# Altium footprint library PIMX8M6AVUDD1A_BGA1313_IMX8_BGA.PcbLib: 1 footprints
Each footprint in its own frame and in the unit in brackets; x right, y up, seen from the top. Pads: shape width x height; smd on the part's side, far side on the other; paste and mask are expansions set on the pad; w line width, h text height; cw(c..) or ccw(c..) is an arc to the next point about the centre after c.
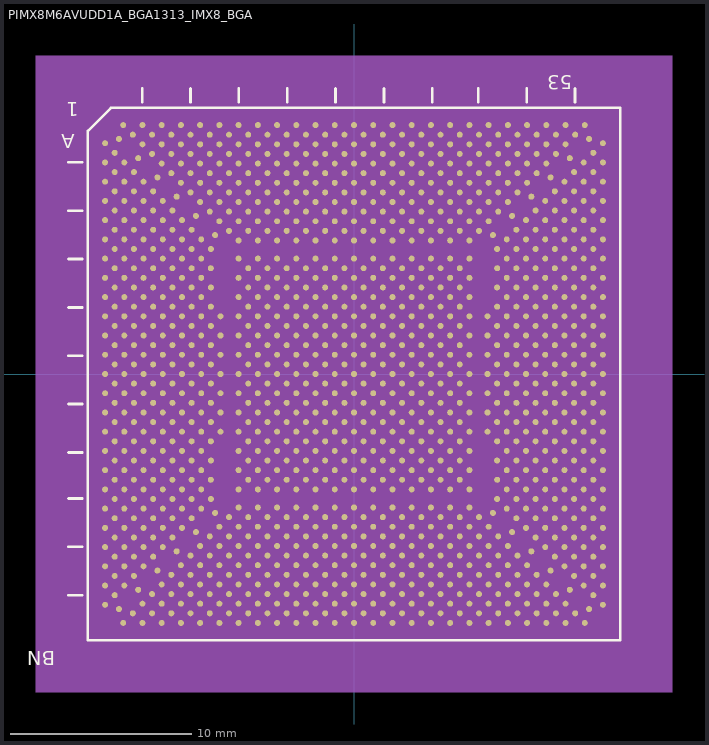
[diagram p0: the footprint, top view; thin cyan lines are the x and y axes]

## PIMX8M6AVUDD1A_BGA1313_IMX8_BGA [mil] "i.MX 8QuadMax Application Processor"
pads (1313):
  round 13 smd: A3(-501.1,540.47) A5(-459.34,540.47) A7(-417.58,540.47) A9(-375.82,540.47) A11(-334.07,540.47) A13(-292.31,540.47) A15(-250.55,540.47) A17(-208.79,540.47) A19(-167.03,540.47) A21(-125.28,540.47) A23(-83.52,540.47) A25(-41.76,540.47) A27(0,540.47) A29(41.76,540.47) A31(83.52,540.47) A33(125.28,540.47) A35(167.03,540.47) A37(208.79,540.47) A39(250.55,540.47) A41(292.31,540.47) A43(334.07,540.47) A45(375.82,540.47) A47(417.58,540.47) A49(459.34,540.47) A51(501.1,540.47) AA1(-540.47,125.28) AA3(-498.71,125.28) AA5(-456.95,125.28) AA7(-415.19,125.28) AA9(-373.44,125.28) AA11(-331.68,125.28) AA13(-289.92,125.28) AA15(-250.55,125.28) AA17(-208.79,125.28) AA19(-167.03,125.28) AA21(-125.28,125.28) AA23(-83.52,125.28) AA25(-41.76,125.28) AA27(0,125.28) AA29(41.76,125.28) AA31(83.52,125.28) AA33(125.28,125.28) AA35(167.03,125.28) AA37(208.79,125.28) AA39(250.55,125.28) AA41(289.92,125.28) AA43(331.68,125.28) AA45(373.44,125.28) AA47(415.19,125.28) AA49(456.95,125.28) AA51(498.71,125.28) AA53(540.47,125.28) AB2(-519.59,104.39) AB4(-477.83,104.39) AB6(-436.07,104.39) AB8(-394.31,104.39) AB10(-352.56,104.39) AB12(-310.8,104.39) AB16(-229.67,104.39) AB18(-187.91,104.39) AB20(-146.15,104.39) AB22(-104.39,104.39) AB24(-62.64,104.39) AB26(-20.88,104.39) AB28(20.88,104.39) AB30(62.64,104.39) AB32(104.39,104.39) AB34(146.15,104.39) AB36(187.91,104.39) AB38(229.67,104.39) AB42(310.8,104.39) AB44(352.56,104.39) AB46(394.31,104.39) AB48(436.07,104.39) AB50(477.83,104.39) AB52(519.59,104.39) AC1(-540.47,83.52) AC3(-498.71,83.52) AC5(-456.95,83.52) AC7(-415.19,83.52) AC9(-373.44,83.52) AC11(-331.68,83.52) AC13(-289.92,83.52) AC15(-250.55,83.52) AC17(-208.79,83.52) AC19(-167.03,83.52) AC21(-125.28,83.52) AC23(-83.52,83.52) AC25(-41.76,83.52) AC27(0,83.52) AC29(41.76,83.52) AC31(83.52,83.52) AC33(125.28,83.52) AC35(167.03,83.52) AC37(208.79,83.52) AC39(250.55,83.52) AC41(289.92,83.52) AC43(331.68,83.52) AC45(373.44,83.52) AC47(415.19,83.52) AC49(456.95,83.52) AC51(498.71,83.52) AC53(540.47,83.52) AD2(-519.59,62.64) AD4(-477.83,62.64) AD6(-436.07,62.64) AD8(-394.31,62.64) AD10(-352.56,62.64) AD12(-310.8,62.64) AD16(-229.67,62.64) AD18(-187.91,62.64) AD20(-146.15,62.64) AD22(-104.39,62.64) AD24(-62.64,62.64) AD26(-20.88,62.64) AD28(20.88,62.64) AD30(62.64,62.64) AD32(104.39,62.64) AD34(146.15,62.64) AD36(187.91,62.64) AD38(229.67,62.64) AD42(310.8,62.64) AD44(352.56,62.64) AD46(394.31,62.64) AD48(436.07,62.64) AD50(477.83,62.64) AD52(519.59,62.64) AE1(-540.47,41.76) AE3(-498.71,41.76) AE5(-456.95,41.76) AE7(-415.19,41.76) AE9(-373.44,41.76) AE11(-331.68,41.76) AE13(-289.92,41.76) AE15(-250.55,41.76) AE17(-208.79,41.76) AE19(-167.03,41.76) AE21(-125.28,41.76) AE23(-83.52,41.76) AE25(-41.76,41.76) AE27(0,41.76) AE29(41.76,41.76) AE31(83.52,41.76) AE33(125.28,41.76) AE35(167.03,41.76) AE37(208.79,41.76) AE39(250.55,41.76) AE41(289.92,41.76) AE43(331.68,41.76) AE45(373.44,41.76) AE47(415.19,41.76) AE49(456.95,41.76) AE51(498.71,41.76) AE53(540.47,41.76) AF2(-519.59,20.88) AF4(-477.83,20.88) AF6(-436.07,20.88) AF8(-394.31,20.88) AF10(-352.56,20.88) AF12(-310.8,20.88) AF16(-229.67,20.88) AF18(-187.91,20.88) AF20(-146.15,20.88) AF22(-104.39,20.88) AF24(-62.64,20.88) AF26(-20.88,20.88) AF28(20.88,20.88) AF30(62.64,20.88) AF32(104.39,20.88) AF34(146.15,20.88) AF36(187.91,20.88) AF38(229.67,20.88) AF42(310.8,20.88) AF44(352.56,20.88) AF46(394.31,20.88) AF48(436.07,20.88) AF50(477.83,20.88) AF52(519.59,20.88) AG1(-540.47,0) AG3(-498.71,0) AG5(-456.95,0) AG7(-415.19,0) AG9(-373.44,0) AG11(-331.68,0) AG13(-289.92,0) AG15(-250.55,0) AG17(-208.79,0) AG19(-167.03,0) AG21(-125.28,0) AG23(-83.52,0) AG25(-41.76,0) AG27(0,0) AG29(41.76,0) AG31(83.52,0) AG33(125.28,0) AG35(167.03,0) AG37(208.79,0) AG39(250.55,0) AG41(289.92,0) AG43(331.68,0) AG45(373.44,0) AG47(415.19,0) AG49(456.95,0) AG51(498.71,0) AG53(540.47,0) AH2(-519.59,-20.88) AH4(-477.83,-20.88) AH6(-436.07,-20.88) AH8(-394.31,-20.88) AH10(-352.56,-20.88) AH12(-310.8,-20.88) AH16(-229.67,-20.88) AH18(-187.91,-20.88) AH20(-146.15,-20.88) AH22(-104.39,-20.88) AH24(-62.64,-20.88) AH26(-20.88,-20.88) AH28(20.88,-20.88) AH30(62.64,-20.88) AH32(104.39,-20.88) AH34(146.15,-20.88) AH36(187.91,-20.88) AH38(229.67,-20.88) AH42(310.8,-20.88) AH44(352.56,-20.88) AH46(394.31,-20.88) AH48(436.07,-20.88) AH50(477.83,-20.88) AH52(519.59,-20.88) AJ1(-540.47,-41.76) AJ3(-498.71,-41.76) AJ5(-456.95,-41.76) AJ7(-415.19,-41.76) AJ9(-373.44,-41.76) AJ11(-331.68,-41.76) AJ13(-289.92,-41.76) AJ15(-250.55,-41.76) AJ17(-208.79,-41.76) AJ19(-167.03,-41.76) AJ21(-125.28,-41.76) AJ23(-83.52,-41.76) AJ25(-41.76,-41.76) AJ27(0,-41.76) AJ29(41.76,-41.76) AJ31(83.52,-41.76) AJ33(125.28,-41.76) AJ35(167.03,-41.76) AJ37(208.79,-41.76) AJ39(250.55,-41.76) AJ41(289.92,-41.76) AJ43(331.68,-41.76) AJ45(373.44,-41.76) AJ47(415.19,-41.76) AJ49(456.95,-41.76) AJ51(498.71,-41.76) AJ53(540.47,-41.76) AK2(-519.59,-62.64) AK4(-477.83,-62.64) AK6(-436.07,-62.64) AK8(-394.31,-62.64) AK10(-352.56,-62.64) AK12(-310.8,-62.64) AK16(-229.67,-62.64) AK18(-187.91,-62.64) AK20(-146.15,-62.64) AK22(-104.39,-62.64) AK24(-62.64,-62.64) AK26(-20.88,-62.64) AK28(20.88,-62.64) AK30(62.64,-62.64) AK32(104.39,-62.64) AK34(146.15,-62.64) AK36(187.91,-62.64) AK38(229.67,-62.64) AK42(310.8,-62.64) AK44(352.56,-62.64) AK46(394.31,-62.64) AK48(436.07,-62.64) AK50(477.83,-62.64) AK52(519.59,-62.64) AL1(-540.47,-83.52) AL3(-498.71,-83.52) AL5(-456.95,-83.52) AL7(-415.19,-83.52) AL9(-373.44,-83.52) AL11(-331.68,-83.52) AL13(-289.92,-83.52) AL15(-250.55,-83.52) AL17(-208.79,-83.52) AL19(-167.03,-83.52) AL21(-125.28,-83.52) AL23(-83.52,-83.52) AL25(-41.76,-83.52) AL27(0,-83.52) AL29(41.76,-83.52) AL31(83.52,-83.52) AL33(125.28,-83.52) AL35(167.03,-83.52) AL37(208.79,-83.52) AL39(250.55,-83.52) AL41(289.92,-83.52) AL43(331.68,-83.52) AL45(373.44,-83.52) AL47(415.19,-83.52) AL49(456.95,-83.52) AL51(498.71,-83.52) AL53(540.47,-83.52) AM2(-519.59,-104.39) AM4(-477.83,-104.39) AM6(-436.07,-104.39) AM8(-394.31,-104.39) AM10(-352.56,-104.39) AM12(-310.8,-104.39) AM16(-229.67,-104.39) AM18(-187.91,-104.39) AM20(-146.15,-104.39) AM22(-104.39,-104.39) AM24(-62.64,-104.39) AM26(-20.88,-104.39) AM28(20.88,-104.39) AM30(62.64,-104.39) AM32(104.39,-104.39) AM34(146.15,-104.39) AM36(187.91,-104.39) AM38(229.67,-104.39) AM42(310.8,-104.39) AM44(352.56,-104.39) AM46(394.31,-104.39) AM48(436.07,-104.39) AM50(477.83,-104.39) AM52(519.59,-104.39) AN1(-540.47,-125.28) AN3(-498.71,-125.28) AN5(-456.95,-125.28) AN7(-415.19,-125.28) AN9(-373.44,-125.28) AN11(-331.68,-125.28) AN13(-289.92,-125.28) AN15(-250.55,-125.28) AN17(-208.79,-125.28) AN19(-167.03,-125.28) AN21(-125.28,-125.28) AN23(-83.52,-125.28) AN25(-41.76,-125.28) AN27(0,-125.28) AN29(41.76,-125.28) AN31(83.52,-125.28) AN33(125.28,-125.28) AN35(167.03,-125.28) AN37(208.79,-125.28) AN39(250.55,-125.28) AN41(289.92,-125.28) AN43(331.68,-125.28) AN45(373.44,-125.28) AN47(415.19,-125.28) AN49(456.95,-125.28) AN51(498.71,-125.28) AN53(540.47,-125.28) AP2(-519.59,-146.15) AP4(-477.83,-146.15) AP6(-436.07,-146.15) AP8(-394.31,-146.15) AP10(-352.56,-146.15) AP12(-310.8,-146.15) AP16(-229.67,-146.15) AP18(-187.91,-146.15) AP20(-146.15,-146.15) AP22(-104.39,-146.15) AP24(-62.64,-146.15) AP26(-20.88,-146.15) AP28(20.88,-146.15) AP30(62.64,-146.15) AP32(104.39,-146.15) AP34(146.15,-146.15) AP36(187.91,-146.15) AP38(229.67,-146.15) AP42(310.8,-146.15) AP44(352.56,-146.15) AP46(394.31,-146.15) AP48(436.07,-146.15) AP50(477.83,-146.15) AP52(519.59,-146.15) AR1(-540.47,-167.03) AR3(-498.71,-167.03) AR5(-456.95,-167.03) AR7(-415.19,-167.03) AR9(-373.44,-167.03) AR11(-331.68,-167.03) AR15(-250.55,-167.03) AR17(-208.79,-167.03) AR19(-167.03,-167.03) AR21(-125.28,-167.03) AR23(-83.52,-167.03) AR25(-41.76,-167.03) AR27(0,-167.03) AR29(41.76,-167.03) AR31(83.52,-167.03) AR33(125.28,-167.03) AR35(167.03,-167.03) AR37(208.79,-167.03) AR39(250.55,-167.03) AR43(331.68,-167.03) AR45(373.44,-167.03) AR47(415.19,-167.03) AR49(456.95,-167.03) AR51(498.71,-167.03) AR53(540.47,-167.03) AT2(-519.59,-187.91) AT4(-477.83,-187.91) AT6(-436.07,-187.91) AT8(-394.31,-187.91) AT10(-352.56,-187.91) AT12(-310.8,-187.91) AT16(-229.67,-187.91) AT18(-187.91,-187.91) AT20(-146.15,-187.91) AT22(-104.39,-187.91) AT24(-62.64,-187.91) AT26(-20.88,-187.91) AT28(20.88,-187.91) AT30(62.64,-187.91) AT32(104.39,-187.91) AT34(146.15,-187.91) AT36(187.91,-187.91) AT38(229.67,-187.91) AT42(310.8,-187.91) AT44(352.56,-187.91) AT46(394.31,-187.91) AT48(436.07,-187.91) AT50(477.83,-187.91) AT52(519.59,-187.91) AU1(-540.47,-208.79) AU3(-498.71,-208.79) AU5(-456.95,-208.79) AU7(-415.19,-208.79) AU9(-373.44,-208.79) AU11(-331.68,-208.79) AU15(-250.55,-208.79) AU17(-208.79,-208.79) AU19(-167.03,-208.79) AU21(-125.28,-208.79) AU23(-83.52,-208.79) AU25(-41.76,-208.79) AU27(0,-208.79) AU29(41.76,-208.79) AU31(83.52,-208.79) AU33(125.28,-208.79) AU35(167.03,-208.79) AU37(208.79,-208.79) AU39(250.55,-208.79) AU43(331.68,-208.79) AU45(373.44,-208.79) AU47(415.19,-208.79) AU49(456.95,-208.79) AU51(498.71,-208.79) AU53(540.47,-208.79) AV2(-519.59,-229.67) AV4(-477.83,-229.67) AV6(-436.07,-229.67) AV8(-394.31,-229.67) AV10(-352.56,-229.67) AV12(-310.8,-229.67) AV16(-229.67,-229.67) AV18(-187.91,-229.67) AV20(-146.15,-229.67) AV22(-104.39,-229.67) AV24(-62.64,-229.67) AV26(-20.88,-229.67) AV28(20.88,-229.67) AV30(62.64,-229.67) AV32(104.39,-229.67) AV34(146.15,-229.67) AV36(187.91,-229.67) AV38(229.67,-229.67) AV42(310.8,-229.67) AV44(352.56,-229.67) AV46(394.31,-229.67) AV48(436.07,-229.67) AV50(477.83,-229.67) AV52(519.59,-229.67) AW1(-540.47,-250.55) AW3(-498.71,-250.55) AW5(-456.95,-250.55) AW7(-415.19,-250.55) AW9(-373.44,-250.55) AW11(-331.68,-250.55) AW15(-250.55,-250.55) AW17(-208.79,-250.55) AW19(-167.03,-250.55) AW21(-125.28,-250.55) AW23(-83.52,-250.55) AW25(-41.76,-250.55) AW27(0,-250.55) AW29(41.76,-250.55) AW31(83.52,-250.55) AW33(125.28,-250.55) AW35(167.03,-250.55) AW37(208.79,-250.55) AW39(250.55,-250.55) AW43(331.68,-250.55) AW45(373.44,-250.55) AW47(415.19,-250.55) AW49(456.95,-250.55) AW51(498.71,-250.55) AW53(540.47,-250.55) AY2(-519.59,-271.43) AY4(-477.83,-271.43) AY6(-436.07,-271.43) AY8(-394.31,-271.43) AY10(-352.56,-271.43) AY12(-310.8,-271.43) AY42(310.8,-271.43) AY44(352.56,-271.43) AY46(394.31,-271.43) AY48(436.07,-271.43) AY50(477.83,-271.43) AY52(519.59,-271.43) B4(-480.22,519.59) B6(-438.46,519.59) B8(-396.7,519.59) B10(-354.94,519.59) B12(-313.19,519.59) B14(-271.43,519.59) B16(-229.67,519.59) B18(-187.91,519.59) B20(-146.15,519.59) B22(-104.39,519.59) B24(-62.64,519.59) B26(-20.88,519.59) B28(20.88,519.59) B30(62.64,519.59) B32(104.39,519.59) B34(146.15,519.59) B36(187.91,519.59) B38(229.67,519.59) B40(271.43,519.59) B42(313.19,519.59) B44(354.94,519.59) B46(396.7,519.59) B48(438.46,519.59) B50(480.22,519.59) BA1(-540.47,-292.31) BA3(-498.71,-292.31) BA5(-456.95,-292.31) BA7(-415.19,-292.31) BA9(-373.44,-292.31) BA11(-331.68,-292.31) BA13(-301.55,-301.55) BA15(-250.55,-289.92) BA17(-208.79,-289.92) BA19(-167.03,-289.92) BA21(-125.28,-289.92) BA23(-83.52,-289.92) BA25(-41.76,-289.92) BA27(0,-289.92) BA29(41.76,-289.92) BA31(83.52,-289.92) BA33(125.28,-289.92) BA35(167.03,-289.92) BA37(208.79,-289.92) BA39(250.55,-289.92) BA41(301.55,-301.55) BA43(331.68,-292.31) BA45(373.44,-292.31) BA47(415.19,-292.31) BA49(456.95,-292.31) BA51(498.71,-292.31) BA53(540.47,-292.31) BB2(-519.59,-313.19) BB4(-477.83,-313.19) BB6(-436.07,-313.19) BB8(-394.31,-313.19) BB10(-352.56,-313.19) BB14(-271.43,-310.8) BB16(-229.67,-310.8) BB18(-187.91,-310.8) BB20(-146.15,-310.8) BB22(-104.39,-310.8) BB24(-62.64,-310.8) BB26(-20.88,-310.8) BB28(20.88,-310.8) BB30(62.64,-310.8) BB32(104.39,-310.8) BB34(146.15,-310.8) BB36(187.91,-310.8) BB38(229.67,-310.8) BB40(271.43,-310.8) BB44(352.56,-313.19) BB46(394.31,-313.19) BB48(436.07,-313.19) BB50(477.83,-313.19) BB52(519.59,-313.19) BC1(-540.47,-334.07) BC3(-498.71,-334.07) BC5(-456.95,-334.07) BC7(-415.19,-334.07) BC9(-373.44,-334.07) BC11(-343.31,-343.31) BC13(-292.31,-331.68) BC15(-250.55,-331.68) BC17(-208.79,-331.68) BC19(-167.03,-331.68) BC21(-125.28,-331.68) BC23(-83.52,-331.68) BC25(-41.76,-331.68) BC27(0,-331.68) BC29(41.76,-331.68) BC31(83.52,-331.68) BC33(125.28,-331.68) BC35(167.03,-331.68) BC37(208.79,-331.68) BC39(250.55,-331.68) BC41(292.31,-331.68) BC43(343.31,-343.31) BC45(373.44,-334.07) BC47(415.19,-334.07) BC49(456.95,-334.07) BC51(498.71,-334.07) BC53(540.47,-334.07) BD2(-519.59,-354.94) BD4(-477.83,-354.94) BD6(-436.07,-354.94) BD8(-394.31,-354.94) BD12(-313.19,-352.56) BD14(-271.43,-352.56) BD16(-229.67,-352.56) BD18(-187.91,-352.56) BD20(-146.15,-352.56) BD22(-104.39,-352.56) BD24(-62.64,-352.56) BD26(-20.88,-352.56) BD28(20.88,-352.56) BD30(62.64,-352.56) BD32(104.39,-352.56) BD34(146.15,-352.56) BD36(187.91,-352.56) BD38(229.67,-352.56) BD40(271.43,-352.56) BD42(313.19,-352.56) BD46(394.31,-354.94) BD48(436.07,-354.94) BD50(477.83,-354.94) BD52(519.59,-354.94) BE1(-540.47,-375.82) BE3(-498.71,-375.82) BE5(-456.95,-375.82) BE7(-415.19,-375.82) BE9(-385.07,-385.07) BE11(-334.07,-373.44) BE13(-292.31,-373.44) BE15(-250.55,-373.44) BE17(-208.79,-373.44) BE19(-167.03,-373.44) BE21(-125.28,-373.44) BE23(-83.52,-373.44) BE25(-41.76,-373.44) BE27(0,-373.44) BE29(41.76,-373.44) BE31(83.52,-373.44) BE33(125.28,-373.44) BE35(167.03,-373.44) BE37(208.79,-373.44) BE39(250.55,-373.44) BE41(292.31,-373.44) BE43(334.07,-373.44) BE45(385.07,-385.07) BE47(415.19,-375.82) BE49(456.95,-375.82) BE51(498.71,-375.82) BE53(540.47,-375.82) BF2(-519.59,-396.7) BF4(-477.83,-396.7) BF6(-436.07,-396.7) BF10(-354.94,-394.31) BF12(-313.19,-394.31) BF14(-271.43,-394.31) BF16(-229.67,-394.31) BF18(-187.91,-394.31) BF20(-146.15,-394.31) BF22(-104.39,-394.31) BF24(-62.64,-394.31) BF26(-20.88,-394.31) BF28(20.88,-394.31) BF30(62.64,-394.31) BF32(104.39,-394.31) BF34(146.15,-394.31) BF36(187.91,-394.31) BF38(229.67,-394.31) BF40(271.43,-394.31) BF42(313.19,-394.31) BF44(354.94,-394.31) BF48(436.07,-396.7) BF50(477.83,-396.7) BF52(519.59,-396.7) BG1(-540.47,-417.58) BG3(-498.71,-417.58) BG5(-456.95,-417.58) BG7(-426.83,-426.83) BG9(-375.82,-415.19) BG11(-334.07,-415.19) BG13(-292.31,-415.19) BG15(-250.55,-415.19) BG17(-208.79,-415.19) BG19(-167.03,-415.19) BG21(-125.28,-415.19) BG23(-83.52,-415.19) BG25(-41.76,-415.19) BG27(0,-415.19) BG29(41.76,-415.19) BG31(83.52,-415.19) BG33(125.28,-415.19) BG35(167.03,-415.19) BG37(208.79,-415.19) BG39(250.55,-415.19) BG41(292.31,-415.19) BG43(334.07,-415.19) BG45(375.82,-415.19) BG47(426.83,-426.83) BG49(456.95,-417.58) BG51(498.71,-417.58) BG53(540.47,-417.58) BH2(-519.59,-438.46) BH4(-477.83,-438.46) BH8(-396.7,-436.07) BH10(-354.94,-436.07) BH12(-313.19,-436.07) BH14(-271.43,-436.07) BH16(-229.67,-436.07) BH18(-187.91,-436.07) BH20(-146.15,-436.07) BH22(-104.39,-436.07) BH24(-62.64,-436.07) BH26(-20.88,-436.07) BH28(20.88,-436.07) BH30(62.64,-436.07) BH32(104.39,-436.07) BH34(146.15,-436.07) BH36(187.91,-436.07) BH38(229.67,-436.07) BH40(271.43,-436.07) BH42(313.19,-436.07) BH44(354.94,-436.07) BH46(396.7,-436.07) BH50(477.83,-438.46) BH52(519.59,-438.46) BJ1(-540.47,-459.34) BJ3(-498.71,-459.34) BJ5(-468.59,-468.59) BJ7(-417.58,-456.95) BJ9(-375.82,-456.95) BJ11(-334.07,-456.95) BJ13(-292.31,-456.95) BJ15(-250.55,-456.95) BJ17(-208.79,-456.95) BJ19(-167.03,-456.95) BJ21(-125.28,-456.95) BJ23(-83.52,-456.95) BJ25(-41.76,-456.95) BJ27(0,-456.95) BJ29(41.76,-456.95) BJ31(83.52,-456.95) BJ33(125.28,-456.95) BJ35(167.03,-456.95) BJ37(208.79,-456.95) BJ39(250.55,-456.95) BJ41(292.31,-456.95) BJ43(334.07,-456.95) BJ45(375.82,-456.95) BJ47(417.58,-456.95) BJ49(468.59,-468.59) BJ51(498.71,-459.34) BJ53(540.47,-459.34) BK2(-519.59,-480.22) BK6(-438.46,-477.83) BK8(-396.7,-477.83) BK10(-354.94,-477.83) BK12(-313.19,-477.83) BK14(-271.43,-477.83) BK16(-229.67,-477.83) BK18(-187.91,-477.83) BK20(-146.15,-477.83) BK22(-104.39,-477.83) BK24(-62.64,-477.83) BK26(-20.88,-477.83) BK28(20.88,-477.83) BK30(62.64,-477.83) BK32(104.39,-477.83) BK34(146.15,-477.83) BK36(187.91,-477.83) BK38(229.67,-477.83) BK40(271.43,-477.83) BK42(313.19,-477.83) BK44(354.94,-477.83) BK46(396.7,-477.83) BK48(438.46,-477.83) BK52(519.59,-480.22) BL1(-540.47,-501.1) BL3(-510.34,-510.34) BL5(-459.34,-498.71) BL7(-417.58,-498.71) BL9(-375.82,-498.71) BL11(-334.07,-498.71) BL13(-292.31,-498.71) BL15(-250.55,-498.71) BL17(-208.79,-498.71) BL19(-167.03,-498.71) BL21(-125.28,-498.71) BL23(-83.52,-498.71) BL25(-41.76,-498.71) BL27(0,-498.71) BL29(41.76,-498.71) BL31(83.52,-498.71) BL33(125.28,-498.71) BL35(167.03,-498.71) BL37(208.79,-498.71) BL39(250.55,-498.71) BL41(292.31,-498.71) BL43(334.07,-498.71) BL45(375.82,-498.71) BL47(417.58,-498.71) BL49(459.34,-498.71) BL51(510.34,-510.34) BL53(540.47,-501.1) BM4(-480.22,-519.59) BM6(-438.46,-519.59) BM8(-396.7,-519.59) BM10(-354.94,-519.59) BM12(-313.19,-519.59) BM14(-271.43,-519.59) BM16(-229.67,-519.59) BM18(-187.91,-519.59) BM20(-146.15,-519.59) BM22(-104.39,-519.59) BM24(-62.64,-519.59) BM26(-20.88,-519.59) BM28(20.88,-519.59) BM30(62.64,-519.59) BM32(104.39,-519.59) BM34(146.15,-519.59) BM36(187.91,-519.59) BM38(229.67,-519.59) BM40(271.43,-519.59) BM42(313.19,-519.59) BM44(354.94,-519.59) BM46(396.7,-519.59) BM48(438.46,-519.59) BM50(480.22,-519.59) BN3(-501.1,-540.47) BN5(-459.34,-540.47) BN7(-417.58,-540.47) BN9(-375.82,-540.47) BN11(-334.07,-540.47) BN13(-292.31,-540.47) BN15(-250.55,-540.47) BN17(-208.79,-540.47) BN19(-167.03,-540.47) BN21(-125.28,-540.47) BN23(-83.52,-540.47) BN25(-41.76,-540.47) BN27(0,-540.47) BN29(41.76,-540.47) BN31(83.52,-540.47) BN33(125.28,-540.47) BN35(167.03,-540.47) BN37(208.79,-540.47) BN39(250.55,-540.47) BN41(292.31,-540.47) BN43(334.07,-540.47) BN45(375.82,-540.47) BN47(417.58,-540.47) BN49(459.34,-540.47) BN51(501.1,-540.47) C1(-540.47,501.1) C3(-510.34,510.34) C5(-459.34,498.71) C7(-417.58,498.71) C9(-375.82,498.71) C11(-334.07,498.71) C13(-292.31,498.71) C15(-250.55,498.71) C17(-208.79,498.71) C19(-167.03,498.71) C21(-125.28,498.71) C23(-83.52,498.71) C25(-41.76,498.71) C27(0,498.71) C29(41.76,498.71) C31(83.52,498.71) C33(125.28,498.71) C35(167.03,498.71) C37(208.79,498.71) C39(250.55,498.71) C41(292.31,498.71) C43(334.07,498.71) C45(375.82,498.71) C47(417.58,498.71) C49(459.34,498.71) C51(510.34,510.34) C53(540.47,501.1) D2(-519.59,480.22) D6(-438.46,477.83) D8(-396.7,477.83) D10(-354.94,477.83) D12(-313.19,477.83) D14(-271.43,477.83) D16(-229.67,477.83) D18(-187.91,477.83) D20(-146.15,477.83) D22(-104.39,477.83) D24(-62.64,477.83) D26(-20.88,477.83) D28(20.88,477.83) D30(62.64,477.83) D32(104.39,477.83) D34(146.15,477.83) D36(187.91,477.83) D38(229.67,477.83) D40(271.43,477.83) D42(313.19,477.83) D44(354.94,477.83) D46(396.7,477.83) D48(438.46,477.83) D52(519.59,480.22) E1(-540.47,459.34) E3(-498.71,459.34) E5(-468.59,468.59) E7(-417.58,456.95) E9(-375.82,456.95) E11(-334.07,456.95) E13(-292.31,456.95) E15(-250.55,456.95) E17(-208.79,456.95) E19(-167.03,456.95) E21(-125.28,456.95) E23(-83.52,456.95) E25(-41.76,456.95) E27(0,456.95) E29(41.76,456.95) E31(83.52,456.95) E33(125.28,456.95) E35(167.03,456.95) E37(208.79,456.95) E39(250.55,456.95) E41(292.31,456.95) E43(334.07,456.95) E45(375.82,456.95) E47(417.58,456.95) E49(468.59,468.59) E51(498.71,459.34) E53(540.47,459.34) F2(-519.59,438.46) F4(-477.83,438.46) F8(-396.7,436.07) F10(-354.94,436.07) F12(-313.19,436.07) F14(-271.43,436.07) F16(-229.67,436.07) F18(-187.91,436.07) F20(-146.15,436.07) F22(-104.39,436.07) F24(-62.64,436.07) F26(-20.88,436.07) F28(20.88,436.07) F30(62.64,436.07) F32(104.39,436.07) F34(146.15,436.07) F36(187.91,436.07) F38(229.67,436.07) F40(271.43,436.07) F42(313.19,436.07) F44(354.94,436.07) F46(396.7,436.07) F50(477.83,438.46) F52(519.59,438.46) G1(-540.47,417.58) G3(-498.71,417.58) G5(-456.95,417.58) G7(-426.83,426.83) G9(-375.82,415.19) G11(-334.07,415.19) G13(-292.31,415.19) G15(-250.55,415.19) G17(-208.79,415.19) G19(-167.03,415.19) G21(-125.28,415.19) G23(-83.52,415.19) G25(-41.76,415.19) G27(0,415.19) G29(41.76,415.19) G31(83.52,415.19) G33(125.28,415.19) G35(167.03,415.19) G37(208.79,415.19) G39(250.55,415.19) G41(292.31,415.19) G43(334.07,415.19) G45(375.82,415.19) G47(426.83,426.83) G49(456.95,417.58) G51(498.71,417.58) G53(540.47,417.58) H2(-519.59,396.7) H4(-477.83,396.7) H6(-436.07,396.7) H10(-354.94,394.31) H12(-313.19,394.31) H14(-271.43,394.31) H16(-229.67,394.31) H18(-187.91,394.31) H20(-146.15,394.31) H22(-104.39,394.31) H24(-62.64,394.31) H26(-20.88,394.31) H28(20.88,394.31) H30(62.64,394.31) H32(104.39,394.31) H34(146.15,394.31) H36(187.91,394.31) H38(229.67,394.31) H40(271.43,394.31) H42(313.19,394.31) H44(354.94,394.31) H48(436.07,396.7) H50(477.83,396.7) H52(519.59,396.7) J1(-540.47,375.82) J3(-498.71,375.82) J5(-456.95,375.82) J7(-415.19,375.82) J9(-385.07,385.07) J11(-334.07,373.44) J13(-292.31,373.44) J15(-250.55,373.44) J17(-208.79,373.44) J19(-167.03,373.44) J21(-125.28,373.44) J23(-83.52,373.44) J25(-41.76,373.44) J27(0,373.44) J29(41.76,373.44) J31(83.52,373.44) J33(125.28,373.44) J35(167.03,373.44) J37(208.79,373.44) J39(250.55,373.44) J41(292.31,373.44) J43(334.07,373.44) J45(385.07,385.07) J47(415.19,375.82) J49(456.95,375.82) J51(498.71,375.82) J53(540.47,375.82) K2(-519.59,354.94) K4(-477.83,354.94) K6(-436.07,354.94) K8(-394.31,354.94) K12(-313.19,352.56) K14(-271.43,352.56) K16(-229.67,352.56) K18(-187.91,352.56) K20(-146.15,352.56) K22(-104.39,352.56) K24(-62.64,352.56) K26(-20.88,352.56) K28(20.88,352.56) K30(62.64,352.56) K32(104.39,352.56) K34(146.15,352.56) K36(187.91,352.56) K38(229.67,352.56) K40(271.43,352.56) K42(313.19,352.56) K46(394.31,354.94) K48(436.07,354.94) K50(477.83,354.94) K52(519.59,354.94) L1(-540.47,334.07) L3(-498.71,334.07) L5(-456.95,334.07) L7(-415.19,334.07) L9(-373.44,334.07) L11(-343.31,343.31) L13(-292.31,331.68) L15(-250.55,331.68) L17(-208.79,331.68) L19(-167.03,331.68) L21(-125.28,331.68) L23(-83.52,331.68) L25(-41.76,331.68) L27(0,331.68) L29(41.76,331.68) L31(83.52,331.68) L33(125.28,331.68) L35(167.03,331.68) L37(208.79,331.68) L39(250.55,331.68) L41(292.31,331.68) L43(343.31,343.31) L45(373.44,334.07) L47(415.19,334.07) L49(456.95,334.07) L51(498.71,334.07) L53(540.47,334.07) M2(-519.59,313.19) M4(-477.83,313.19) M6(-436.07,313.19) M8(-394.31,313.19) M10(-352.56,313.19) M14(-271.43,310.8) M16(-229.67,310.8) M18(-187.91,310.8) M20(-146.15,310.8) M22(-104.39,310.8) M24(-62.64,310.8) M26(-20.88,310.8) M28(20.88,310.8) M30(62.64,310.8) M32(104.39,310.8) M34(146.15,310.8) M36(187.91,310.8) M38(229.67,310.8) M40(271.43,310.8) M44(352.56,313.19) M46(394.31,313.19) M48(436.07,313.19) M50(477.83,313.19) M52(519.59,313.19) N1(-540.47,292.31) N3(-498.71,292.31) N5(-456.95,292.31) N7(-415.19,292.31) N9(-373.44,292.31) N11(-331.68,292.31) N13(-301.55,301.55) N15(-250.55,289.92) N17(-208.79,289.92) N19(-167.03,289.92) N21(-125.28,289.92) N23(-83.52,289.92) N25(-41.76,289.92) N27(0,289.92) N29(41.76,289.92) N31(83.52,289.92) N33(125.28,289.92) N35(167.03,289.92) N37(208.79,289.92) N39(250.55,289.92) N41(301.55,301.55) N43(331.68,292.31) N45(373.44,292.31) N47(415.19,292.31) N49(456.95,292.31) N51(498.71,292.31) N53(540.47,292.31) P2(-519.59,271.43) P4(-477.83,271.43) P6(-436.07,271.43) P8(-394.31,271.43) P10(-352.56,271.43) P12(-310.8,271.43) P42(310.8,271.43) P44(352.56,271.43) P46(394.31,271.43) P48(436.07,271.43) P50(477.83,271.43) P52(519.59,271.43) R1(-540.47,250.55) R3(-498.71,250.55) R5(-456.95,250.55) R7(-415.19,250.55) R9(-373.44,250.55) R11(-331.68,250.55) R15(-250.55,250.55) R17(-208.79,250.55) R19(-167.03,250.55) R21(-125.28,250.55) R23(-83.52,250.55) R25(-41.76,250.55) R27(0,250.55) R29(41.76,250.55) R31(83.52,250.55) R33(125.28,250.55) R35(167.03,250.55) R37(208.79,250.55) R39(250.55,250.55) R43(331.68,250.55) R45(373.44,250.55) R47(415.19,250.55) R49(456.95,250.55) R51(498.71,250.55) R53(540.47,250.55) T2(-519.59,229.67) T4(-477.83,229.67) T6(-436.07,229.67) T8(-394.31,229.67) T10(-352.56,229.67) T12(-310.8,229.67) T16(-229.67,229.67) T18(-187.91,229.67) T20(-146.15,229.67) T22(-104.39,229.67) T24(-62.64,229.67) T26(-20.88,229.67) T28(20.88,229.67) T30(62.64,229.67) T32(104.39,229.67) T34(146.15,229.67) T36(187.91,229.67) T38(229.67,229.67) T42(310.8,229.67) T44(352.56,229.67) T46(394.31,229.67) T48(436.07,229.67) T50(477.83,229.67) T52(519.59,229.67) U1(-540.47,208.79) U3(-498.71,208.79) U5(-456.95,208.79) U7(-415.19,208.79) U9(-373.44,208.79) U11(-331.68,208.79) U15(-250.55,208.79) U17(-208.79,208.79) U19(-167.03,208.79) U21(-125.28,208.79) U23(-83.52,208.79) U25(-41.76,208.79) U27(0,208.79) U29(41.76,208.79) U31(83.52,208.79) U33(125.28,208.79) U35(167.03,208.79) U37(208.79,208.79) U39(250.55,208.79) U43(331.68,208.79) U45(373.44,208.79) U47(415.19,208.79) U49(456.95,208.79) U51(498.71,208.79) U53(540.47,208.79) V2(-519.59,187.91) V4(-477.83,187.91) V6(-436.07,187.91) V8(-394.31,187.91) V10(-352.56,187.91) V12(-310.8,187.91) V16(-229.67,187.91) V18(-187.91,187.91) V20(-146.15,187.91) V22(-104.39,187.91) V24(-62.64,187.91) V26(-20.88,187.91) V28(20.88,187.91) V30(62.64,187.91) V32(104.39,187.91) V34(146.15,187.91) V36(187.91,187.91) V38(229.67,187.91) V42(310.8,187.91) V44(352.56,187.91) V46(394.31,187.91) V48(436.07,187.91) V50(477.83,187.91) V52(519.59,187.91) W1(-540.47,167.03) W3(-498.71,167.03) W5(-456.95,167.03) W7(-415.19,167.03) W9(-373.44,167.03) W11(-331.68,167.03) W15(-250.55,167.03) W17(-208.79,167.03) W19(-167.03,167.03) W21(-125.28,167.03) W23(-83.52,167.03) W25(-41.76,167.03) W27(0,167.03) W29(41.76,167.03) W31(83.52,167.03) W33(125.28,167.03) W35(167.03,167.03) W37(208.79,167.03) W39(250.55,167.03) W43(331.68,167.03) W45(373.44,167.03) W47(415.19,167.03) W49(456.95,167.03) W51(498.71,167.03) W53(540.47,167.03) Y2(-519.59,146.15) Y4(-477.83,146.15) Y6(-436.07,146.15) Y8(-394.31,146.15) Y10(-352.56,146.15) Y12(-310.8,146.15) Y16(-229.67,146.15) Y18(-187.91,146.15) Y20(-146.15,146.15) Y22(-104.39,146.15) Y24(-62.64,146.15) Y26(-20.88,146.15) Y28(20.88,146.15) Y30(62.64,146.15) Y32(104.39,146.15) Y34(146.15,146.15) Y36(187.91,146.15) Y38(229.67,146.15) Y42(310.8,146.15) Y44(352.56,146.15) Y46(394.31,146.15) Y48(436.07,146.15) Y50(477.83,146.15) Y52(519.59,146.15)
Top Overlay:
  lines w6: -619.77,-480.33 -590.24,-480.33 ; -619.77,-375.33 -590.24,-375.33 ; -619.77,-270.33 -590.24,-270.33 ; -619.77,-170.33 -590.24,-170.33 ; -619.77,-65.33 -590.24,-65.33 ; -619.77,39.67 -590.24,39.67 ; -619.77,144.67 -590.24,144.67 ; -619.77,249.67 -590.24,249.67 ; -619.77,354.67 -590.24,354.67 ; -619.77,459.67 -590.24,459.67 ; -460,590.23 -460,619.76 ; -355,590.23 -355,619.76 ; -250,590.23 -250,619.76 ; -145,590.23 -145,619.76 ; -40,590.23 -40,619.76 ; 65,590.23 65,619.76 ; 170,590.23 170,619.76 ; 270,590.23 270,619.76 ; 375,590.23 375,619.76 ; 480,590.23 480,619.76 ; -577.87,-577.87 577.87,-577.87 577.87,577.87 -527.87,577.87 -577.87,527.87 -577.87,-577.87
  text "53" at 474.24,648.5 h30.98
  text "1" at -597.95,590.38 h30.98
  text "A" at -606.08,521 h30.98
  text "BN" at -649.19,-602.12 h30.98
Mechanical 5:
  pour cut-out: -570.87,-570.87 570.87,-570.87 570.87,570.87 -570.87,570.87
Mechanical 7:
  region: -570.87,-570.87 570.87,-570.87 570.87,570.87 -570.87,570.87
Mechanical 9:
  lines w1: -10,0 10,0 ; 0,-10 0,10
Mechanical 11:
  circle w6: c-490.53,491.32 r51.28
  lines w6: -619.77,-480.33 -590.24,-480.33 ; -619.77,-375.33 -590.24,-375.33 ; -619.77,-270.33 -590.24,-270.33 ; -619.77,-170.33 -590.24,-170.33 ; -619.77,-65.33 -590.24,-65.33 ; -619.77,39.67 -590.24,39.67 ; -619.77,144.67 -590.24,144.67 ; -619.77,249.67 -590.24,249.67 ; -619.77,354.67 -590.24,354.67 ; -619.77,459.67 -590.24,459.67 ; -460,590.23 -460,619.76 ; -355,590.23 -355,619.76 ; -250,590.23 -250,619.76 ; -145,590.23 -145,619.76 ; -40,590.23 -40,619.76 ; 65,590.23 65,619.76 ; 170,590.23 170,619.76 ; 270,590.23 270,619.76 ; 375,590.23 375,619.76 ; 480,590.23 480,619.76 ; -570.87,-570.87 -570.87,520.87 -520.87,570.87 570.87,570.87 570.87,-570.87 -570.87,-570.87 ; -562.99,-543.31 ccw(c-543.31,-543.31) -543.31,-562.99 543.31,-562.99 ccw(c543.31,-543.31) 562.99,-543.31 562.99,543.31 ccw(c543.31,543.31) 543.31,562.99 -512.99,562.99 -562.99,512.99 -562.99,-543.31
  text ".Designator" at 30.17,16.64 h20
  text "53" at 577.05,609.76 h20
  text "1" at -553,587.5 h25
  text "BN" at -503.58,-510.55 h20
  text "A" at -614.25,527.96 h25
Mechanical 44:
  pour cut-out: -690.87,-690.87 690.87,-690.87 690.87,690.87 -690.87,690.87
Mechanical 46:
  text "AW21" at -109.28,-250.55 h10
  text "M18" at -175.91,310.8 h10
  text "N17" at -196.79,289.92 h10
  text "M16" at -217.67,310.8 h10
  text "N15" at -238.55,289.92 h10
  text "M14" at -259.43,310.8 h10
  text "T22" at -92.39,229.67 h10
  text "AU15" at -234.55,-208.79 h10
  text "AP16" at -213.67,-146.15 h10
  text "AR15" at -234.55,-167.03 h10
  text "AN15" at -234.55,-125.28 h10
  text "AM16" at -213.67,-104.39 h10
  text "AK16" at -213.67,-62.64 h10
  text "AV22" at -88.39,-229.67 h10
  text "AU27" at 16,-208.79 h10
  text "AV32" at 120.39,-229.67 h10
  text "AL39" at 266.55,-83.52 h10
  text "AM38" at 245.67,-104.39 h10
  text "N35" at 179.03,289.92 h10
  text "T18" at -175.91,229.67 h10
  text "N19" at -155.03,289.92 h10
  text "F16" at -217.67,436.07 h10
  text "BL13" at -276.31,-498.71 h10
  text "AB10" at -336.56,104.39 h10
  text "AC9" at -361.44,83.52 h10
  text "AC3" at -486.71,83.52 h10
  text "AE9" at -361.44,41.76 h10
  text "AC11" at -315.68,83.52 h10
  text "T8" at -386.31,229.67 h10
  text "W3" at -490.71,167.03 h10
  text "W9" at -365.44,167.03 h10
  text "Y10" at -340.56,146.15 h10
  text "W11" at -319.68,167.03 h10
  text "Y6" at -428.07,146.15 h10
  text "AB44" at 368.56,104.39 h10
  text "AC45" at 389.44,83.52 h10
  text "AC51" at 514.71,83.52 h10
  text "AE45" at 389.44,41.76 h10
  text "AC43" at 347.68,83.52 h10
  text "T46" at 406.31,229.67 h10
  text "W51" at 510.71,167.03 h10
  text "W45" at 385.44,167.03 h10
  text "Y44" at 364.56,146.15 h10
  text "W43" at 343.68,167.03 h10
  text "Y48" at 448.07,146.15 h10
  text "BM6" at -426.46,-519.59 h10
  text "AY42" at 326.8,-271.43 h10
  text "BH8" at -384.7,-436.07 h10
  text "BJ1" at -528.47,-459.34 h10
  text "G13" at -280.31,415.19 h10
  text "F22" at -92.39,436.07 h10
  text "F14" at -259.43,436.07 h10
  text "BM20" at -130.15,-519.59 h10
  text "BH10" at -338.94,-436.07 h10
  text "E17" at -196.79,456.95 h10
  text "BL5" at -447.34,-498.71 h10
  text "H14" at -259.43,394.31 h10
  text "BM8" at -384.7,-519.59 h10
  text "H16" at -217.67,394.31 h10
  text "BD2" at -507.59,-354.94 h10
  text "G17" at -196.79,415.19 h10
  text "E15" at -238.55,456.95 h10
  text "H18" at -175.91,394.31 h10
  text "A43" at 346.07,540.47 h10
  text "F18" at -175.91,436.07 h10
  text "H20" at -134.15,394.31 h10
  text "BD30" at 78.64,-352.56 h10
  text "B42" at 325.19,519.59 h10
  text "BN19" at -151.03,-540.47 h10
  text "G19" at -155.03,415.19 h10
  text "C45" at 387.82,498.71 h10
  text "BD36" at 203.91,-352.56 h10
  text "BB44" at 368.56,-313.19 h10
  text "BF16" at -213.67,-394.31 h10
  text "BH24" at -46.64,-436.07 h10
  text "BC45" at 389.44,-334.07 h10
  text "BG31" at 99.52,-415.19 h10
  text "A9" at -367.82,540.47 h10
  text "BK28" at 36.88,-477.83 h10
  text "BK52" at 535.59,-480.22 h10
  text "BM22" at -88.39,-519.59 h10
  text "BN23" at -67.52,-540.47 h10
  text "N39" at 262.55,289.92 h10
  text "M40" at 283.43,310.8 h10
  text "BM28" at 36.88,-519.59 h10
  text "F20" at -134.15,436.07 h10
  text "E45" at 387.82,456.95 h10
  text "BJ53" at 556.47,-459.34 h10
  text "BE23" at -67.52,-373.44 h10
  text "BN49" at 475.34,-540.47 h10
  text "BH30" at 78.64,-436.07 h10
  text "BE21" at -109.28,-373.44 h10
  text "G35" at 179.03,415.19 h10
  text "A47" at 429.58,540.47 h10
  text "BN15" at -234.55,-540.47 h10
  text "BH26" at -4.88,-436.07 h10
  text "A45" at 387.82,540.47 h10
  text "BH16" at -213.67,-436.07 h10
  text "BF22" at -88.39,-394.31 h10
  text "J27" at 12,373.44 h10
  text "BG33" at 141.28,-415.19 h10
  text "A7" at -409.58,540.47 h10
  text "BK26" at -4.88,-477.83 h10
  text "BN47" at 433.58,-540.47 h10
  text "BJ17" at -192.79,-456.95 h10
  text "BE19" at -151.03,-373.44 h10
  text "BE15" at -234.55,-373.44 h10
  text "D10" at -342.94,477.83 h10
  text "BF20" at -130.15,-394.31 h10
  text "D42" at 325.19,477.83 h10
  text "BJ19" at -151.03,-456.95 h10
  text "BF18" at -171.91,-394.31 h10
  text "BL49" at 475.34,-498.71 h10
  text "BH32" at 120.39,-436.07 h10
  text "BG27" at 16,-415.19 h10
  text "BG53" at 556.47,-417.58 h10
  text "BH18" at -171.91,-436.07 h10
  text "G29" at 53.76,415.19 h10
  text "BE31" at 99.52,-373.44 h10
  text "G37" at 220.79,415.19 h10
  text "BN17" at -192.79,-540.47 h10
  text "H30" at 74.64,394.31 h10
  text "E41" at 304.31,456.95 h10
  text "BM26" at -4.88,-519.59 h10
  text "E43" at 346.07,456.95 h10
  text "BL47" at 433.58,-498.71 h10
  text "G31" at 95.52,415.19 h10
  text "BE25" at -25.76,-373.44 h10
  text "BG29" at 57.76,-415.19 h10
  text "H32" at 116.39,394.31 h10
  text "BM24" at -46.64,-519.59 h10
  text "BH52" at 535.59,-438.46 h10
  text "BJ15" at -234.55,-456.95 h10
  text "J33" at 137.28,373.44 h10
  text "BN13" at -276.31,-540.47 h10
  text "BL29" at 57.76,-498.71 h10
  text "H34" at 158.15,394.31 h10
  text "BH14" at -255.43,-436.07 h10
  text "H28" at 32.88,394.31 h10
  text "B44" at 366.94,519.59 h10
  text "BN27" at 16,-540.47 h10
  text "H36" at 199.91,394.31 h10
  text "BH28" at 36.88,-436.07 h10
  text "BK24" at -46.64,-477.83 h10
  text "BE1" at -528.47,-375.82 h10
  text "AF4" at -465.83,20.88 h10
  text "BJ21" at -109.28,-456.95 h10
  text "AW45" at 389.44,-250.55 h10
  text "Y4" at -469.83,146.15 h10
  text "BE29" at 57.76,-373.44 h10
  text "AR3" at -486.71,-167.03 h10
  text "BJ23" at -67.52,-456.95 h10
  text "AJ5" at -444.95,-41.76 h10
  text "BN29" at 57.76,-540.47 h10
  text "AF10" at -336.56,20.88 h10
  text "AW53" at 556.47,-250.55 h10
  text "BH20" at -130.15,-436.07 h10
  text "AC33" at 141.28,83.52 h10
  text "AB32" at 120.39,104.39 h10
  text "W33" at 137.28,167.03 h10
  text "AD34" at 162.15,62.64 h10
  text "Y34" at 158.15,146.15 h10
  text "AE35" at 183.03,41.76 h10
  text "AB36" at 203.91,104.39 h10
  text "AA35" at 183.03,125.28 h10
  text "U35" at 179.03,208.79 h10
  text "V36" at 199.91,187.91 h10
  text "G3" at -490.71,417.58 h10
  text "A41" at 304.31,540.47 h10
  text "BF24" at -46.64,-394.31 h10
  text "AU21" at -109.28,-208.79 h10
  text "U7" at -407.19,208.79 h10
  text "BG35" at 183.03,-415.19 h10
  text "M24" at -50.64,310.8 h10
  text "N25" at -29.76,289.92 h10
  text "M26" at -8.88,310.8 h10
  text "N29" at 53.76,289.92 h10
  text "N5" at -448.95,292.31 h10
  text "BG25" at -25.76,-415.19 h10
  text "AT38" at 245.67,-187.91 h10
  text "U5" at -448.95,208.79 h10
  text "BJ13" at -276.31,-456.95 h10
  text "AE5" at -444.95,41.76 h10
  text "BL27" at 16,-498.71 h10
  text "AW15" at -234.55,-250.55 h10
  text "AV16" at -213.67,-229.67 h10
  text "AC7" at -403.19,83.52 h10
  text "AV20" at -130.15,-229.67 h10
  text "N33" at 137.28,289.92 h10
  text "M34" at 158.15,310.8 h10
  text "P4" at -469.83,271.43 h10
  text "BL25" at -25.76,-498.71 h10
  text "AE43" at 347.68,41.76 h10
  text "L7" at -407.19,334.07 h10
  text "M30" at 74.64,310.8 h10
  text "N31" at 95.52,289.92 h10
  text "M32" at 116.39,310.8 h10
  text "AE7" at -403.19,41.76 h10
  text "BH12" at -297.19,-436.07 h10
  text "AK42" at 326.8,-62.64 h10
  text "D44" at 366.94,477.83 h10
  text "BD28" at 36.88,-352.56 h10
  text "T38" at 241.67,229.67 h10
  text "U1" at -532.47,208.79 h10
  text "BL23" at -67.52,-498.71 h10
  text "AR21" at -109.28,-167.03 h10
  text "AT22" at -88.39,-187.91 h10
  text "AM22" at -88.39,-104.39 h10
  text "AP24" at -46.64,-146.15 h10
  text "AN23" at -67.52,-125.28 h10
  text "AR25" at -25.76,-167.03 h10
  text "AM26" at -4.88,-104.39 h10
  text "AJ11" at -315.68,-41.76 h10
  text "B16" at -217.67,519.59 h10
  text "BE27" at 16,-373.44 h10
  text "AH6" at -424.07,-20.88 h10
  text "BE17" at -192.79,-373.44 h10
  text "AU19" at -151.03,-208.79 h10
  text "N9" at -365.44,292.31 h10
  text "C17" at -196.79,498.71 h10
  text "BH34" at 162.15,-436.07 h10
  text "Y2" at -511.59,146.15 h10
  text "BN25" at -25.76,-540.47 h10
  text "AE19" at -151.03,41.76 h10
  text "AD18" at -171.91,62.64 h10
  text "AA19" at -151.03,125.28 h10
  text "Y18" at -175.91,146.15 h10
  text "AC21" at -109.28,83.52 h10
  text "AB20" at -130.15,104.39 h10
  text "W21" at -113.28,167.03 h10
  text "V20" at -134.15,187.91 h10
  text "AD22" at -88.39,62.64 h10
  text "Y22" at -92.39,146.15 h10
  text "U3" at -490.71,208.79 h10
  text "BK38" at 245.67,-477.83 h10
  text "AE11" at -315.68,41.76 h10
  text "AH4" at -465.83,-20.88 h10
  text "BH38" at 245.67,-436.07 h10
  text "AN27" at 16,-125.28 h10
  text "AP28" at 36.88,-146.15 h10
  text "AR29" at 57.76,-167.03 h10
  text "AL29" at 57.76,-83.52 h10
  text "AM30" at 78.64,-104.39 h10
  text "AN31" at 99.52,-125.28 h10
  text "AP32" at 120.39,-146.15 h10
  text "AR33" at 141.28,-167.03 h10
  text "AL33" at 141.28,-83.52 h10
  text "AT34" at 162.15,-187.91 h10
  text "AM34" at 162.15,-104.39 h10
  text "AN35" at 183.03,-125.28 h10
  text "T4" at -469.83,229.67 h10
  text "BN35" at 183.03,-540.47 h10
  text "M38" at 241.67,310.8 h10
  text "AE1" at -528.47,41.76 h10
  text "BE39" at 266.55,-373.44 h10
  text "AG21" at -109.28,0 h10
  text "AR17" at -192.79,-167.03 h10
  text "AL17" at -192.79,-83.52 h10
  text "AT18" at -171.91,-187.91 h10
  text "AN19" at -151.03,-125.28 h10
  text "AM18" at -171.91,-104.39 h10
  text "AH18" at -171.91,-20.88 h10
  text "AJ19" at -151.03,-41.76 h10
  text "U19" at -155.03,208.79 h10
  text "AP20" at -130.15,-146.15 h10
  text "AL21" at -109.28,-83.52 h10
  text "AF20" at -130.15,20.88 h10
  text "AE23" at -67.52,41.76 h10
  text "AF24" at -46.64,20.88 h10
  text "AB24" at -46.64,104.39 h10
  text "AA23" at -67.52,125.28 h10
  text "U23" at -71.52,208.79 h10
  text "V24" at -50.64,187.91 h10
  text "AW25" at -25.76,-250.55 h10
  text "AL25" at -25.76,-83.52 h10
  text "AC25" at -25.76,83.52 h10
  text "W25" at -29.76,167.03 h10
  text "AW27" at 16,-250.55 h10
  text "AV26" at -4.88,-229.67 h10
  text "AT26" at -4.88,-187.91 h10
  text "AE27" at 16,41.76 h10
  text "AD26" at -4.88,62.64 h10
  text "AA27" at 16,125.28 h10
  text "Y26" at -8.88,146.15 h10
  text "AV28" at 36.88,-229.67 h10
  text "AF28" at 36.88,20.88 h10
  text "AB28" at 36.88,104.39 h10
  text "AW29" at 57.76,-250.55 h10
  text "AU29" at 57.76,-208.79 h10
  text "AT30" at 78.64,-187.91 h10
  text "AC29" at 57.76,83.52 h10
  text "AD30" at 78.64,62.64 h10
  text "Y30" at 74.64,146.15 h10
  text "W29" at 53.76,167.03 h10
  text "AJ31" at 99.52,-41.76 h10
  text "AE31" at 99.52,41.76 h10
  text "AA31" at 99.52,125.28 h10
  text "AK32" at 120.39,-62.64 h10
  text "AG33" at 141.28,0 h10
  text "AF32" at 120.39,20.88 h10
  text "V32" at 116.39,187.91 h10
  text "AH34" at 162.15,-20.88 h10
  text "T34" at 158.15,229.67 h10
  text "AW35" at 183.03,-250.55 h10
  text "AU35" at 183.03,-208.79 h10
  text "AV36" at 203.91,-229.67 h10
  text "AP36" at 203.91,-146.15 h10
  text "AK36" at 203.91,-62.64 h10
  text "AF36" at 203.91,20.88 h10
  text "AR37" at 224.79,-167.03 h10
  text "AL37" at 224.79,-83.52 h10
  text "M20" at -134.15,310.8 h10
  text "BM38" at 245.67,-519.59 h10
  text "Y8" at -386.31,146.15 h10
  text "BK42" at 329.19,-477.83 h10
  text "AW39" at 266.55,-250.55 h10
  text "H4" at -469.83,396.7 h10
  text "N23" at -71.52,289.92 h10
  text "BM40" at 287.43,-519.59 h10
  text "AG17" at -192.79,0 h10
  text "AC17" at -192.79,83.52 h10
  text "W17" at -196.79,167.03 h10
  text "AH22" at -88.39,-20.88 h10
  text "AK24" at -46.64,-62.64 h10
  text "AJ23" at -67.52,-41.76 h10
  text "AG25" at -25.76,0 h10
  text "AH26" at -4.88,-20.88 h10
  text "AJ27" at 16,-41.76 h10
  text "AK28" at 36.88,-62.64 h10
  text "AH30" at 78.64,-20.88 h10
  text "AG29" at 57.76,0 h10
  text "AG37" at 224.79,0 h10
  text "AC37" at 224.79,83.52 h10
  text "W37" at 220.79,167.03 h10
  text "AL5" at -444.95,-83.52 h10
  text "BN43" at 350.07,-540.47 h10
  text "K4" at -469.83,354.94 h10
  text "AL11" at -315.68,-83.52 h10
  text "AL15" at -234.55,-83.52 h10
  text "AW17" at -192.79,-250.55 h10
  text "AV18" at -171.91,-229.67 h10
  text "N21" at -113.28,289.92 h10
  text "M22" at -92.39,310.8 h10
  text "AU23" at -67.52,-208.79 h10
  text "AV24" at -46.64,-229.67 h10
  text "U27" at 12,208.79 h10
  text "T26" at -8.88,229.67 h10
  text "N27" at 12,289.92 h10
  text "V28" at 32.88,187.91 h10
  text "AV30" at 78.64,-229.67 h10
  text "U29" at 53.76,208.79 h10
  text "T30" at 74.64,229.67 h10
  text "AW31" at 99.52,-250.55 h10
  text "U31" at 95.52,208.79 h10
  text "AW33" at 141.28,-250.55 h10
  text "AV34" at 162.15,-229.67 h10
  text "AP42" at 326.8,-146.15 h10
  text "M28" at 32.88,310.8 h10
  text "BL33" at 141.28,-498.71 h10
  text "BG51" at 514.71,-417.58 h10
  text "AH2" at -507.59,-20.88 h10
  text "AY46" at 410.31,-271.43 h10
  text "AH8" at -382.31,-20.88 h10
  text "F26" at -8.88,436.07 h10
  text "BG45" at 391.82,-415.19 h10
  text "P10" at -340.56,271.43 h10
  text "E23" at -71.52,456.95 h10
  text "BD40" at 287.43,-352.56 h10
  text "BB50" at 493.83,-313.19 h10
  text "AL7" at -403.19,-83.52 h10
  text "BL43" at 350.07,-498.71 h10
  text "BA47" at 431.19,-292.31 h10
  text "E25" at -29.76,456.95 h10
  text "BH46" at 412.7,-436.07 h10
  text "N7" at -407.19,292.31 h10
  text "BK40" at 287.43,-477.83 h10
  text "W1" at -532.47,167.03 h10
  text "BG43" at 350.07,-415.19 h10
  text "AJ9" at -361.44,-41.76 h10
  text "BN33" at 141.28,-540.47 h10
  text "AF6" at -424.07,20.88 h10
  text "BM44" at 370.94,-519.59 h10
  text "AB8" at -382.31,104.39 h10
  text "BH44" at 370.94,-436.07 h10
  text "BE47" at 431.19,-375.82 h10
  text "K6" at -428.07,354.94 h10
  text "BE35" at 183.03,-373.44 h10
  text "BE41" at 308.31,-373.44 h10
  text "AB4" at -465.83,104.39 h10
  text "BK44" at 370.94,-477.83 h10
  text "BE43" at 350.07,-373.44 h10
  text "BD46" at 410.31,-354.94 h10
  text "P2" at -511.59,271.43 h10
  text "BK32" at 120.39,-477.83 h10
  text "BD42" at 329.19,-352.56 h10
  text "T6" at -428.07,229.67 h10
  text "BG41" at 308.31,-415.19 h10
  text "G1" at -532.47,417.58 h10
  text "BE37" at 224.79,-373.44 h10
  text "BN45" at 391.82,-540.47 h10
  text "H6" at -428.07,396.7 h10
  text "K2" at -511.59,354.94 h10
  text "BH42" at 329.19,-436.07 h10
  text "C5" at -451.34,498.71 h10
  text "AJ1" at -528.47,-41.76 h10
  text "BM32" at 120.39,-519.59 h10
  text "AC1" at -528.47,83.52 h10
  text "BL45" at 391.82,-498.71 h10
  text "BG39" at 266.55,-415.19 h10
  text "AM2" at -507.59,-104.39 h10
  text "BL31" at 99.52,-498.71 h10
  text "L1" at -532.47,334.07 h10
  text "BN41" at 308.31,-540.47 h10
  text "AM6" at -424.07,-104.39 h10
  text "N1" at -532.47,292.31 h10
  text "BD32" at 120.39,-352.56 h10
  text "AJ3" at -486.71,-41.76 h10
  text "BK36" at 203.91,-477.83 h10
  text "L5" at -448.95,334.07 h10
  text "BH40" at 287.43,-436.07 h10
  text "AH10" at -336.56,-20.88 h10
  text "BN31" at 99.52,-540.47 h10
  text "AB6" at -424.07,104.39 h10
  text "BN39" at 266.55,-540.47 h10
  text "P8" at -386.31,271.43 h10
  text "BM36" at 203.91,-519.59 h10
  text "D30" at 74.64,477.83 h10
  text "AB2" at -507.59,104.39 h10
  text "BL41" at 308.31,-498.71 h10
  text "E31" at 95.52,456.95 h10
  text "N11" at -319.68,292.31 h10
  text "BK30" at 78.64,-477.83 h10
  text "N3" at -490.71,292.31 h10
  text "BK34" at 162.15,-477.83 h10
  text "H2" at -511.59,396.7 h10
  text "F30" at 74.64,436.07 h10
  text "BM30" at 78.64,-519.59 h10
  text "AL3" at -486.71,-83.52 h10
  text "BD38" at 245.67,-352.56 h10
  text "W7" at -407.19,167.03 h10
  text "BL37" at 224.79,-498.71 h10
  text "D32" at 116.39,477.83 h10
  text "AC5" at -444.95,83.52 h10
  text "BG37" at 224.79,-415.19 h10
  text "E33" at 137.28,456.95 h10
  text "F28" at 32.88,436.07 h10
  text "BD34" at 162.15,-352.56 h10
  text "F34" at 158.15,436.07 h10
  text "AL1" at -528.47,-83.52 h10
  text "BL39" at 266.55,-498.71 h10
  text "E35" at 179.03,456.95 h10
  text "AP4" at -465.83,-146.15 h10
  text "BN37" at 224.79,-540.47 h10
  text "AE3" at -486.71,41.76 h10
  text "A33" at 137.28,540.47 h10
  text "BM42" at 329.19,-519.59 h10
  text "U11" at -319.68,208.79 h10
  text "BH36" at 203.91,-436.07 h10
  text "P6" at -428.07,271.43 h10
  text "BM34" at 162.15,-519.59 h10
  text "AM4" at -465.83,-104.39 h10
  text "AR1" at -528.47,-167.03 h10
  text "AJ7" at -403.19,-41.76 h10
  text "AV4" at -465.83,-229.67 h10
  text "AP2" at -507.59,-146.15 h10
  text "W5" at -448.95,167.03 h10
  text "L3" at -490.71,334.07 h10
  text "AJ45" at 389.44,-41.76 h10
  text "H50" at 489.83,396.7 h10
  text "B38" at 241.67,519.59 h10
  text "AU5" at -444.95,-208.79 h10
  text "AF50" at 493.83,20.88 h10
  text "E27" at 12,456.95 h10
  text "AU1" at -528.47,-208.79 h10
  text "P52" at 531.59,271.43 h10
  text "T48" at 448.07,229.67 h10
  text "AV2" at -507.59,-229.67 h10
  text "N51" at 510.71,292.31 h10
  text "AJ53" at 556.47,-41.76 h10
  text "E29" at 53.76,456.95 h10
  text "AR51" at 514.71,-167.03 h10
  text "BA51" at 514.71,-292.31 h10
  text "L51" at 510.71,334.07 h10
  text "A39" at 262.55,540.47 h10
  text "AE49" at 472.95,41.76 h10
  text "H26" at -8.88,394.31 h10
  text "W49" at 468.95,167.03 h10
  text "A35" at 179.03,540.47 h10
  text "AU39" at 266.55,-208.79 h10
  text "BB4" at -465.83,-313.19 h10
  text "AU45" at 389.44,-208.79 h10
  text "K48" at 448.07,354.94 h10
  text "AY6" at -424.07,-271.43 h10
  text "AW49" at 472.95,-250.55 h10
  text "L47" at 427.19,334.07 h10
  text "C37" at 220.79,498.71 h10
  text "BA5" at -444.95,-292.31 h10
  text "AC53" at 556.47,83.52 h10
  text "BC1" at -528.47,-334.07 h10
  text "K50" at 489.83,354.94 h10
  text "W47" at 427.19,167.03 h10
  text "BF6" at -424.07,-396.7 h10
  text "P50" at 489.83,271.43 h10
  text "BM48" at 454.46,-519.59 h10
  text "BK48" at 454.46,-477.83 h10
  text "BM50" at 496.22,-519.59 h10
  text "BN51" at 517.1,-540.47 h10
  text "BF2" at -507.59,-396.7 h10
  text "AB52" at 535.59,104.39 h10
  text "BE5" at -444.95,-375.82 h10
  text "Y50" at 489.83,146.15 h10
  text "BG5" at -444.95,-417.58 h10
  text "AP52" at 535.59,-146.15 h10
  text "BD8" at -382.31,-354.94 h10
  text "AH52" at 535.59,-20.88 h10
  text "B34" at 158.15,519.59 h10
  text "BE11" at -318.07,-373.44 h10
  text "K52" at 531.59,354.94 h10
  text "BF12" at -297.19,-394.31 h10
  text "Y46" at 406.31,146.15 h10
  text "BD12" at -297.19,-352.56 h10
  text "AH44" at 368.56,-20.88 h10
  text "AY10" at -336.56,-271.43 h10
  text "P48" at 448.07,271.43 h10
  text "BF10" at -338.94,-394.31 h10
  text "AC49" at 472.95,83.52 h10
  text "BA11" at -315.68,-292.31 h10
  text "AU11" at -315.68,-208.79 h10
  text "AM52" at 535.59,-104.39 h10
  text "B32" at 116.39,519.59 h10
  text "AV10" at -336.56,-229.67 h10
  text "AJ43" at 347.68,-41.76 h10
  text "AY12" at -294.8,-271.43 h10
  text "AB50" at 493.83,104.39 h10
  text "AT10" at -336.56,-187.91 h10
  text "L53" at 552.47,334.07 h10
  text "N47" at 427.19,292.31 h10
  text "AM48" at 452.07,-104.39 h10
  text "C35" at 179.03,498.71 h10
  text "AW9" at -361.44,-250.55 h10
  text "AL51" at 514.71,-83.52 h10
  text "J9" at -377.07,385.07 h10
  text "BG9" at -363.82,-415.19 h10
  text "N45" at 385.44,292.31 h10
  text "BB8" at -382.31,-313.19 h10
  text "AC47" at 431.19,83.52 h10
  text "AY8" at -382.31,-271.43 h10
  text "T50" at 489.83,229.67 h10
  text "BA9" at -361.44,-292.31 h10
  text "AL47" at 431.19,-83.52 h10
  text "BA7" at -403.19,-292.31 h10
  text "AJ51" at 514.71,-41.76 h10
  text "AU9" at -361.44,-208.79 h10
  text "BC5" at -444.95,-334.07 h10
  text "P44" at 364.56,271.43 h10
  text "AV8" at -382.31,-229.67 h10
  text "AL53" at 556.47,-83.52 h10
  text "AU7" at -403.19,-208.79 h10
  text "U51" at 510.71,208.79 h10
  text "AJ47" at 431.19,-41.76 h10
  text "AB48" at 452.07,104.39 h10
  text "U49" at 468.95,208.79 h10
  text "AR53" at 556.47,-167.03 h10
  text "AH50" at 493.83,-20.88 h10
  text "AE51" at 514.71,41.76 h10
  text "U43" at 343.68,208.79 h10
  text "U53" at 552.47,208.79 h10
  text "AM50" at 493.83,-104.39 h10
  text "G51" at 510.71,417.58 h10
  text "A29" at 53.76,540.47 h10
  text "AB46" at 410.31,104.39 h10
  text "W53" at 552.47,167.03 h10
  text "B30" at 74.64,519.59 h10
  text "P46" at 406.31,271.43 h10
  text "BD4" at -465.83,-354.94 h10
  text "AJ49" at 472.95,-41.76 h10
  text "A27" at 12,540.47 h10
  text "AE53" at 556.47,41.76 h10
  text "AU51" at 514.71,-208.79 h10
  text "G25" at -29.76,415.19 h10
  text "AF44" at 368.56,20.88 h10
  text "A25" at -29.76,540.47 h10
  text "AP50" at 493.83,-146.15 h10
  text "AL49" at 472.95,-83.52 h10
  text "AM44" at 368.56,-104.39 h10
  text "N43" at 343.68,292.31 h10
  text "AF48" at 452.07,20.88 h10
  text "Y52" at 531.59,146.15 h10
  text "BM4" at -468.22,-519.59 h10
  text "AH48" at 452.07,-20.88 h10
  text "BL7" at -405.58,-498.71 h10
  text "BF14" at -255.43,-394.31 h10
  text "AE47" at 431.19,41.76 h10
  text "BL3" at -498.34,-510.34 h10
  text "H52" at 531.59,396.7 h10
  text "U47" at 427.19,208.79 h10
  text "D22" at -92.39,477.83 h10
  text "AH46" at 410.31,-20.88 h10
  text "L49" at 468.95,334.07 h10
  text "BK2" at -507.59,-480.22 h10
  text "G53" at 552.47,417.58 h10
  text "BL1" at -528.47,-501.1 h10
  text "AN1" at -528.47,-125.28 h10
  text "AG1" at -528.47,0 h10
  text "AA1" at -528.47,125.28 h10
  text "R1" at -532.47,250.55 h10
  text "J1" at -532.47,375.82 h10
  text "C1" at -532.47,501.1 h10
  text "BB2" at -507.59,-313.19 h10
  text "AT2" at -507.59,-187.91 h10
  text "AK2" at -507.59,-62.64 h10
  text "AD2" at -507.59,62.64 h10
  text "V2" at -511.59,187.91 h10
  text "M2" at -511.59,313.19 h10
  text "F2" at -511.59,438.46 h10
  text "BN3" at -489.1,-540.47 h10
  text "BJ3" at -486.71,-459.34 h10
  text "BH4" at -465.83,-438.46 h10
  text "BF4" at -465.83,-396.7 h10
  text "BE3" at -486.71,-375.82 h10
  text "AW3" at -486.71,-250.55 h10
  text "AT4" at -465.83,-187.91 h10
  text "AN3" at -486.71,-125.28 h10
  text "AK4" at -465.83,-62.64 h10
  text "AG3" at -486.71,0 h10
  text "AD4" at -465.83,62.64 h10
  text "AA3" at -486.71,125.28 h10
  text "V4" at -469.83,187.91 h10
  text "R3" at -490.71,250.55 h10
  text "M4" at -469.83,313.19 h10
  text "J3" at -490.71,375.82 h10
  text "F4" at -469.83,438.46 h10
  text "A3" at -493.1,540.47 h10
  text "BJ5" at -456.59,-468.59 h10
  text "AR5" at -444.95,-167.03 h10
  text "AN5" at -444.95,-125.28 h10
  text "AG5" at -444.95,0 h10
  text "AA5" at -444.95,125.28 h10
  text "R5" at -448.95,250.55 h10
  text "J5" at -448.95,375.82 h10
  text "G5" at -448.95,417.58 h10
  text "BK6" at -426.46,-477.83 h10
  text "BG7" at -414.83,-426.83 h10
  text "BE7" at -403.19,-375.82 h10
  text "BB6" at -424.07,-313.19 h10
  text "AW7" at -403.19,-250.55 h10
  text "AT6" at -424.07,-187.91 h10
  text "AN7" at -403.19,-125.28 h10
  text "AK6" at -424.07,-62.64 h10
  text "AG7" at -403.19,0 h10
  text "AD6" at -424.07,62.64 h10
  text "AA7" at -403.19,125.28 h10
  text "V6" at -428.07,187.91 h10
  text "R7" at -407.19,250.55 h10
  text "M6" at -428.07,313.19 h10
  text "J7" at -407.19,375.82 h10
  text "D6" at -430.46,477.83 h10
  text "B6" at -430.46,519.59 h10
  text "BK8" at -384.7,-477.83 h10
  text "BE9" at -373.07,-385.07 h10
  text "AT8" at -382.31,-187.91 h10
  text "AM8" at -382.31,-104.39 h10
  text "AK8" at -382.31,-62.64 h10
  text "AD8" at -382.31,62.64 h10
  text "V8" at -386.31,187.91 h10
  text "M8" at -386.31,313.19 h10
  text "K8" at -386.31,354.94 h10
  text "BM10" at -338.94,-519.59 h10
  text "BK10" at -338.94,-477.83 h10
  text "BB10" at -336.56,-313.19 h10
  text "AM10" at -336.56,-104.39 h10
  text "AK10" at -336.56,-62.64 h10
  text "AG9" at -361.44,0 h10
  text "AD10" at -336.56,62.64 h10
  text "AA9" at -361.44,125.28 h10
  text "V10" at -340.56,187.91 h10
  text "R9" at -365.44,250.55 h10
  text "M10" at -340.56,313.19 h10
  text "G9" at -367.82,415.19 h10
  text "E9" at -367.82,456.95 h10
  text "C9" at -367.82,498.71 h10
  text "BG11" at -318.07,-415.19 h10
  text "BC11" at -327.31,-343.31 h10
  text "AW11" at -315.68,-250.55 h10
  text "AR11" at -315.68,-167.03 h10
  text "AG11" at -315.68,0 h10
  text "AA11" at -315.68,125.28 h10
  text "R11" at -319.68,250.55 h10
  text "L11" at -331.31,343.31 h10
  text "C11" at -322.07,498.71 h10
  text "BK12" at -297.19,-477.83 h10
  text "BG13" at -276.31,-415.19 h10
  text "BC13" at -276.31,-331.68 h10
  text "BA13" at -285.55,-301.55 h10
  text "AV12" at -294.8,-229.67 h10
  text "AT12" at -294.8,-187.91 h10
  text "AP12" at -294.8,-146.15 h10
  text "AN13" at -273.92,-125.28 h10
  text "AL13" at -273.92,-83.52 h10
  text "AM12" at -294.8,-104.39 h10
  text "AK12" at -294.8,-62.64 h10
  text "AH12" at -294.8,-20.88 h10
  text "AJ13" at -273.92,-41.76 h10
  text "AG13" at -273.92,0 h10
  text "AE13" at -273.92,41.76 h10
  text "AF12" at -294.8,20.88 h10
  text "AC13" at -273.92,83.52 h10
  text "AD12" at -294.8,62.64 h10
  text "AB12" at -294.8,104.39 h10
  text "AA13" at -273.92,125.28 h10
  text "Y12" at -298.8,146.15 h10
  text "V12" at -298.8,187.91 h10
  text "T12" at -298.8,229.67 h10
  text "P12" at -298.8,271.43 h10
  text "N13" at -289.55,301.55 h10
  text "L13" at -280.31,331.68 h10
  text "K12" at -301.19,352.56 h10
  text "J13" at -280.31,373.44 h10
  text "F12" at -301.19,436.07 h10
  text "B12" at -301.19,519.59 h10
  text "BK14" at -255.43,-477.83 h10
  text "BD14" at -255.43,-352.56 h10
  text "BB14" at -255.43,-310.8 h10
  text "K14" at -259.43,352.56 h10
  text "B14" at -259.43,519.59 h10
  text "BK16" at -213.67,-477.83 h10
  text "BG15" at -234.55,-415.19 h10
  text "BC15" at -234.55,-331.68 h10
  text "BD16" at -213.67,-352.56 h10
  text "BB16" at -213.67,-310.8 h10
  text "BA15" at -234.55,-289.92 h10
  text "AT16" at -213.67,-187.91 h10
  text "T16" at -217.67,229.67 h10
  text "R15" at -238.55,250.55 h10
  text "L15" at -238.55,331.68 h10
  text "K16" at -217.67,352.56 h10
  text "J15" at -238.55,373.44 h10
  text "G15" at -238.55,415.19 h10
  text "D16" at -217.67,477.83 h10
  text "C15" at -238.55,498.71 h10
  text "BG17" at -192.79,-415.19 h10
  text "BC17" at -192.79,-331.68 h10
  text "BA17" at -192.79,-289.92 h10
  text "AU17" at -192.79,-208.79 h10
  text "AN17" at -192.79,-125.28 h10
  text "AJ17" at -192.79,-41.76 h10
  text "AE17" at -192.79,41.76 h10
  text "AA17" at -192.79,125.28 h10
  text "U17" at -196.79,208.79 h10
  text "R17" at -196.79,250.55 h10
  text "L17" at -196.79,331.68 h10
  text "J17" at -196.79,373.44 h10
  text "BK18" at -171.91,-477.83 h10
  text "BG19" at -151.03,-415.19 h10
  text "BC19" at -151.03,-331.68 h10
  text "BD18" at -171.91,-352.56 h10
  text "BB18" at -171.91,-310.8 h10
  text "BA19" at -151.03,-289.92 h10
  text "AW19" at -151.03,-250.55 h10
  text "AP18" at -171.91,-146.15 h10
  text "AR19" at -151.03,-167.03 h10
  text "AL19" at -151.03,-83.52 h10
  text "AK18" at -171.91,-62.64 h10
  text "AG19" at -151.03,0 h10
  text "AF18" at -171.91,20.88 h10
  text "AC19" at -151.03,83.52 h10
  text "AB18" at -171.91,104.39 h10
  text "W19" at -155.03,167.03 h10
  text "V18" at -175.91,187.91 h10
  text "R19" at -155.03,250.55 h10
  text "L19" at -155.03,331.68 h10
  text "K18" at -175.91,352.56 h10
  text "J19" at -155.03,373.44 h10
  text "E19" at -155.03,456.95 h10
  text "D18" at -175.91,477.83 h10
  text "B18" at -175.91,519.59 h10
  text "C19" at -155.03,498.71 h10
  text "BN21" at -109.28,-540.47 h10
  text "BK20" at -130.15,-477.83 h10
  text "BG21" at -109.28,-415.19 h10
  text "BC21" at -109.28,-331.68 h10
  text "BD20" at -130.15,-352.56 h10
  text "BB20" at -130.15,-310.8 h10
  text "BA21" at -109.28,-289.92 h10
  text "AT20" at -130.15,-187.91 h10
  text "AN21" at -109.28,-125.28 h10
  text "AM20" at -130.15,-104.39 h10
  text "AH20" at -130.15,-20.88 h10
  text "AJ21" at -109.28,-41.76 h10
  text "AE21" at -109.28,41.76 h10
  text "AD20" at -130.15,62.64 h10
  text "AA21" at -109.28,125.28 h10
  text "Y20" at -134.15,146.15 h10
  text "U21" at -113.28,208.79 h10
  text "T20" at -134.15,229.67 h10
  text "R21" at -113.28,250.55 h10
  text "L21" at -113.28,331.68 h10
  text "K20" at -134.15,352.56 h10
  text "J21" at -113.28,373.44 h10
  text "G21" at -113.28,415.19 h10
  text "E21" at -113.28,456.95 h10
  text "C21" at -113.28,498.71 h10
  text "BK22" at -88.39,-477.83 h10
  text "BH22" at -88.39,-436.07 h10
  text "BD22" at -88.39,-352.56 h10
  text "BB22" at -88.39,-310.8 h10
  text "AP22" at -88.39,-146.15 h10
  text "AK22" at -88.39,-62.64 h10
  text "AF22" at -88.39,20.88 h10
  text "AB22" at -88.39,104.39 h10
  text "V22" at -92.39,187.91 h10
  text "K22" at -92.39,352.56 h10
  text "BG23" at -67.52,-415.19 h10
  text "BC23" at -67.52,-331.68 h10
  text "BD24" at -46.64,-352.56 h10
  text "BB24" at -46.64,-310.8 h10
  text "BA23" at -67.52,-289.92 h10
  text "AW23" at -67.52,-250.55 h10
  text "AT24" at -46.64,-187.91 h10
  text "AR23" at -67.52,-167.03 h10
  text "AL23" at -67.52,-83.52 h10
  text "AM24" at -46.64,-104.39 h10
  text "AH24" at -46.64,-20.88 h10
  text "AG23" at -67.52,0 h10
  text "AC23" at -67.52,83.52 h10
  text "AD24" at -46.64,62.64 h10
  text "Y24" at -50.64,146.15 h10
  text "W23" at -71.52,167.03 h10
  text "T24" at -50.64,229.67 h10
  text "R23" at -71.52,250.55 h10
  text "L23" at -71.52,331.68 h10
  text "K24" at -50.64,352.56 h10
  text "J23" at -71.52,373.44 h10
  text "G23" at -71.52,415.19 h10
  text "F24" at -50.64,436.07 h10
  text "D24" at -50.64,477.83 h10
  text "C23" at -71.52,498.71 h10
  text "A23" at -71.52,540.47 h10
  text "BJ25" at -25.76,-456.95 h10
  text "BC25" at -25.76,-331.68 h10
  text "BA25" at -25.76,-289.92 h10
  text "AU25" at -25.76,-208.79 h10
  text "AN25" at -25.76,-125.28 h10
  text "AJ25" at -25.76,-41.76 h10
  text "AE25" at -25.76,41.76 h10
  text "AA25" at -25.76,125.28 h10
  text "R25" at -29.76,250.55 h10
  text "L25" at -29.76,331.68 h10
  text "J25" at -29.76,373.44 h10
  text "BJ27" at 16,-456.95 h10
  text "BF26" at -4.88,-394.31 h10
  text "BC27" at 16,-331.68 h10
  text "BD26" at -4.88,-352.56 h10
  text "BB26" at -4.88,-310.8 h10
  text "BA27" at 16,-289.92 h10
  text "AP26" at -4.88,-146.15 h10
  text "AR27" at 16,-167.03 h10
  text "AL27" at 16,-83.52 h10
  text "AK26" at -4.88,-62.64 h10
  text "AG27" at 16,0 h10
  text "AF26" at -4.88,20.88 h10
  text "AC27" at 16,83.52 h10
  text "AB26" at -4.88,104.39 h10
  text "W27" at 12,167.03 h10
  text "R27" at 12,250.55 h10
  text "L27" at 12,331.68 h10
  text "K26" at -8.88,352.56 h10
  text "G27" at 12,415.19 h10
  text "D26" at -8.88,477.83 h10
  text "BF28" at 36.88,-394.31 h10
  text "BB28" at 36.88,-310.8 h10
  text "AT28" at 36.88,-187.91 h10
  text "AM28" at 36.88,-104.39 h10
  text "AH28" at 36.88,-20.88 h10
  text "AD28" at 36.88,62.64 h10
  text "Y28" at 32.88,146.15 h10
  text "T28" at 32.88,229.67 h10
  text "K28" at 32.88,352.56 h10
  text "D28" at 32.88,477.83 h10
  text "B28" at 32.88,519.59 h10
  text "BJ29" at 57.76,-456.95 h10
  text "BF30" at 78.64,-394.31 h10
  text "BC29" at 57.76,-331.68 h10
  text "BB30" at 78.64,-310.8 h10
  text "BA29" at 57.76,-289.92 h10
  text "AP30" at 78.64,-146.15 h10
  text "AN29" at 57.76,-125.28 h10
  text "AK30" at 78.64,-62.64 h10
  text "AJ29" at 57.76,-41.76 h10
  text "AE29" at 57.76,41.76 h10
  text "AF30" at 78.64,20.88 h10
  text "AB30" at 78.64,104.39 h10
  text "AA29" at 57.76,125.28 h10
  text "V30" at 74.64,187.91 h10
  text "R29" at 53.76,250.55 h10
  text "L29" at 53.76,331.68 h10
  text "K30" at 74.64,352.56 h10
  text "J29" at 53.76,373.44 h10
  text "C29" at 53.76,498.71 h10
  text "BJ31" at 99.52,-456.95 h10
  text "BC31" at 99.52,-331.68 h10
  text "BA31" at 99.52,-289.92 h10
  text "AU31" at 99.52,-208.79 h10
  text "AR31" at 99.52,-167.03 h10
  text "AL31" at 99.52,-83.52 h10
  text "AG31" at 99.52,0 h10
  text "AC31" at 99.52,83.52 h10
  text "W31" at 95.52,167.03 h10
  text "R31" at 95.52,250.55 h10
  text "L31" at 95.52,331.68 h10
  text "J31" at 95.52,373.44 h10
  text "C31" at 95.52,498.71 h10
  text "A31" at 95.52,540.47 h10
  text "BJ33" at 141.28,-456.95 h10
  text "BF32" at 120.39,-394.31 h10
  text "BC33" at 141.28,-331.68 h10
  text "BB32" at 120.39,-310.8 h10
  text "BA33" at 141.28,-289.92 h10
  text "AU33" at 141.28,-208.79 h10
  text "AT32" at 120.39,-187.91 h10
  text "AN33" at 141.28,-125.28 h10
  text "AM32" at 120.39,-104.39 h10
  text "AH32" at 120.39,-20.88 h10
  text "AJ33" at 141.28,-41.76 h10
  text "AE33" at 141.28,41.76 h10
  text "AD32" at 120.39,62.64 h10
  text "AA33" at 141.28,125.28 h10
  text "Y32" at 116.39,146.15 h10
  text "U33" at 137.28,208.79 h10
  text "T32" at 116.39,229.67 h10
  text "R33" at 137.28,250.55 h10
  text "L33" at 137.28,331.68 h10
  text "K32" at 116.39,352.56 h10
  text "G33" at 137.28,415.19 h10
  text "F32" at 116.39,436.07 h10
  text "C33" at 137.28,498.71 h10
  text "BF34" at 162.15,-394.31 h10
  text "BB34" at 162.15,-310.8 h10
  text "AP34" at 162.15,-146.15 h10
  text "AK34" at 162.15,-62.64 h10
  text "AF34" at 162.15,20.88 h10
  text "AB34" at 162.15,104.39 h10
  text "V34" at 158.15,187.91 h10
  text "K34" at 158.15,352.56 h10
  text "D34" at 158.15,477.83 h10
  text "BJ35" at 183.03,-456.95 h10
  text "BF36" at 203.91,-394.31 h10
  text "BC35" at 183.03,-331.68 h10
  text "BB36" at 203.91,-310.8 h10
  text "BA35" at 183.03,-289.92 h10
  text "AT36" at 203.91,-187.91 h10
  text "AR35" at 183.03,-167.03 h10
  text "AL35" at 183.03,-83.52 h10
  text "AM36" at 203.91,-104.39 h10
  text "AH36" at 203.91,-20.88 h10
  text "AG35" at 183.03,0 h10
  text "AC35" at 183.03,83.52 h10
  text "AD36" at 203.91,62.64 h10
  text "Y36" at 199.91,146.15 h10
  text "W35" at 179.03,167.03 h10
  text "T36" at 199.91,229.67 h10
  text "R35" at 179.03,250.55 h10
  text "L35" at 179.03,331.68 h10
  text "K36" at 199.91,352.56 h10
  text "J35" at 179.03,373.44 h10
  text "F36" at 199.91,436.07 h10
  text "D36" at 199.91,477.83 h10
  text "B36" at 199.91,519.59 h10
  text "BJ37" at 224.79,-456.95 h10
  text "BC37" at 224.79,-331.68 h10
  text "BA37" at 224.79,-289.92 h10
  text "AW37" at 224.79,-250.55 h10
  text "AU37" at 224.79,-208.79 h10
  text "AJ37" at 224.79,-41.76 h10
  text "AE37" at 224.79,41.76 h10
  text "AA37" at 224.79,125.28 h10
  text "U37" at 220.79,208.79 h10
  text "R37" at 220.79,250.55 h10
  text "L37" at 220.79,331.68 h10
  text "J37" at 220.79,373.44 h10
  text "BJ39" at 266.55,-456.95 h10
  text "BF38" at 245.67,-394.31 h10
  text "BC39" at 266.55,-331.68 h10
  text "BB38" at 245.67,-310.8 h10
  text "BA39" at 266.55,-289.92 h10
  text "AV38" at 245.67,-229.67 h10
  text "AK38" at 245.67,-62.64 h10
  text "R39" at 262.55,250.55 h10
  text "L39" at 262.55,331.68 h10
  text "K38" at 241.67,352.56 h10
  text "G39" at 262.55,415.19 h10
  text "D38" at 241.67,477.83 h10
  text "BF40" at 287.43,-394.31 h10
  text "BB40" at 287.43,-310.8 h10
  text "K40" at 283.43,352.56 h10
  text "D40" at 283.43,477.83 h10
  text "BJ41" at 308.31,-456.95 h10
  text "BF42" at 329.19,-394.31 h10
  text "BC41" at 308.31,-331.68 h10
  text "BA41" at 317.55,-301.55 h10
  text "AV42" at 326.8,-229.67 h10
  text "AT42" at 326.8,-187.91 h10
  text "AN41" at 305.92,-125.28 h10
  text "AL41" at 305.92,-83.52 h10
  text "AM42" at 326.8,-104.39 h10
  text "AH42" at 326.8,-20.88 h10
  text "AJ41" at 305.92,-41.76 h10
  text "AG41" at 305.92,0 h10
  text "AE41" at 305.92,41.76 h10
  text "AF42" at 326.8,20.88 h10
  text "AC41" at 305.92,83.52 h10
  text "AD42" at 326.8,62.64 h10
  text "AB42" at 326.8,104.39 h10
  text "AA41" at 305.92,125.28 h10
  text "Y42" at 322.8,146.15 h10
  text "V42" at 322.8,187.91 h10
  text "T42" at 322.8,229.67 h10
  text "P42" at 322.8,271.43 h10
  text "N41" at 313.55,301.55 h10
  text "L41" at 304.31,331.68 h10
  text "K42" at 325.19,352.56 h10
  text "J41" at 304.31,373.44 h10
  text "C41" at 304.31,498.71 h10
  text "BJ43" at 350.07,-456.95 h10
  text "BC43" at 359.31,-343.31 h10
  text "AW43" at 347.68,-250.55 h10
  text "AN43" at 347.68,-125.28 h10
  text "AG43" at 347.68,0 h10
  text "AA43" at 347.68,125.28 h10
  text "R43" at 343.68,250.55 h10
  text "L43" at 355.31,343.31 h10
  text "C43" at 346.07,498.71 h10
  text "BJ45" at 391.82,-456.95 h10
  text "BF44" at 370.94,-394.31 h10
  text "BA45" at 389.44,-292.31 h10
  text "AK44" at 368.56,-62.64 h10
  text "AG45" at 389.44,0 h10
  text "AD44" at 368.56,62.64 h10
  text "AA45" at 389.44,125.28 h10
  text "V44" at 364.56,187.91 h10
  text "R45" at 385.44,250.55 h10
  text "M44" at 364.56,313.19 h10
  text "F44" at 366.94,436.07 h10
  text "BM46" at 412.7,-519.59 h10
  text "BE45" at 401.07,-385.07 h10
  text "AT46" at 410.31,-187.91 h10
  text "AM46" at 410.31,-104.39 h10
  text "AK46" at 410.31,-62.64 h10
  text "AD46" at 410.31,62.64 h10
  text "V46" at 406.31,187.91 h10
  text "M46" at 406.31,313.19 h10
  text "K46" at 406.31,354.94 h10
  text "B46" at 408.7,519.59 h10
  text "BJ47" at 433.58,-456.95 h10
  text "BG47" at 442.83,-426.83 h10
  text "BD48" at 452.07,-354.94 h10
  text "BB48" at 452.07,-313.19 h10
  text "AW47" at 431.19,-250.55 h10
  text "AN47" at 431.19,-125.28 h10
  text "AK48" at 452.07,-62.64 h10
  text "AG47" at 431.19,0 h10
  text "AD48" at 452.07,62.64 h10
  text "AA47" at 431.19,125.28 h10
  text "V48" at 448.07,187.91 h10
  text "R47" at 427.19,250.55 h10
  text "M48" at 448.07,313.19 h10
  text "J47" at 427.19,375.82 h10
  text "E47" at 429.58,456.95 h10
  text "BJ49" at 484.59,-468.59 h10
  text "BC49" at 472.95,-334.07 h10
  text "AR49" at 472.95,-167.03 h10
  text "AN49" at 472.95,-125.28 h10
  text "AG49" at 472.95,0 h10
  text "AA49" at 472.95,125.28 h10
  text "R49" at 468.95,250.55 h10
  text "J49" at 468.95,375.82 h10
  text "G49" at 468.95,417.58 h10
  text "C49" at 471.34,498.71 h10
  text "BJ51" at 514.71,-459.34 h10
  text "BD50" at 493.83,-354.94 h10
  text "AW51" at 514.71,-250.55 h10
  text "AT50" at 493.83,-187.91 h10
  text "AN51" at 514.71,-125.28 h10
  text "AK50" at 493.83,-62.64 h10
  text "AG51" at 514.71,0 h10
  text "AD50" at 493.83,62.64 h10
  text "AA51" at 514.71,125.28 h10
  text "V50" at 489.83,187.91 h10
  text "R51" at 510.71,250.55 h10
  text "M50" at 489.83,313.19 h10
  text "J51" at 510.71,375.82 h10
  text "F50" at 489.83,438.46 h10
  text "A51" at 513.1,540.47 h10
  text "BF52" at 535.59,-396.7 h10
  text "BB52" at 535.59,-313.19 h10
  text "AT52" at 535.59,-187.91 h10
  text "AK52" at 535.59,-62.64 h10
  text "AD52" at 535.59,62.64 h10
  text "V52" at 531.59,187.91 h10
  text "M52" at 531.59,313.19 h10
  text "F52" at 531.59,438.46 h10
  text "BL53" at 556.47,-501.1 h10
  text "AN53" at 556.47,-125.28 h10
  text "AG53" at 556.47,0 h10
  text "AA53" at 556.47,125.28 h10
  text "R53" at 552.47,250.55 h10
  text "J53" at 552.47,375.82 h10
  text "C53" at 552.47,501.1 h10
  text "BK46" at 412.7,-477.83 h10
  text "BL21" at -109.28,-498.71 h10
  text "N53" at 552.47,292.31 h10
  text "BH2" at -507.59,-438.46 h10
  text "N49" at 468.95,292.31 h10
  text "BM12" at -297.19,-519.59 h10
  text "BL19" at -151.03,-498.71 h10
  text "BL11" at -318.07,-498.71 h10
  text "BD52" at 535.59,-354.94 h10
  text "BM18" at -171.91,-519.59 h10
  text "BJ9" at -363.82,-456.95 h10
  text "BM16" at -213.67,-519.59 h10
  text "BC51" at 514.71,-334.07 h10
  text "BL17" at -192.79,-498.71 h10
  text "BE51" at 514.71,-375.82 h10
  text "BJ11" at -318.07,-456.95 h10
  text "BG1" at -528.47,-417.58 h10
  text "BL9" at -363.82,-498.71 h10
  text "BM14" at -255.43,-519.59 h10
  text "BA49" at 472.95,-292.31 h10
  text "BJ7" at -405.58,-456.95 h10
  text "BN5" at -447.34,-540.47 h10
  text "BL15" at -234.55,-498.71 h10
  text "BA43" at 347.68,-292.31 h10
  text "BF50" at 493.83,-396.7 h10
  text "BH50" at 493.83,-438.46 h10
  text "AR47" at 431.19,-167.03 h10
  text "AU53" at 556.47,-208.79 h10
  text "AW5" at -444.95,-250.55 h10
  text "BA1" at -528.47,-292.31 h10
  text "AY4" at -465.83,-271.43 h10
  text "AW1" at -528.47,-250.55 h10
  text "BN9" at -363.82,-540.47 h10
  text "BN7" at -405.58,-540.47 h10
  text "A13" at -280.31,540.47 h10
  text "C13" at -280.31,498.71 h10
  text "D2" at -511.59,480.22 h10
  text "E1" at -532.47,459.34 h10
  text "AP48" at 452.07,-146.15 h10
  text "AL45" at 389.44,-83.52 h10
  text "F10" at -342.94,436.07 h10
  text "B4" at -472.22,519.59 h10
  text "AK20" at -130.15,-62.64 h10
  text "U25" at -29.76,208.79 h10
  text "AJ35" at 183.03,-41.76 h10
  text "AN37" at 224.79,-125.28 h10
  text "AP38" at 245.67,-146.15 h10
  text "AR39" at 266.55,-167.03 h10
  text "AN39" at 266.55,-125.28 h10
  text "M36" at 199.91,310.8 h10
  text "N37" at 220.79,289.92 h10
  text "AF46" at 410.31,20.88 h10
  text "U45" at 385.44,208.79 h10
  text "T44" at 364.56,229.67 h10
  text "AF8" at -382.31,20.88 h10
  text "U9" at -365.44,208.79 h10
  text "T10" at -340.56,229.67 h10
  text "B26" at -8.88,519.59 h10
  text "C27" at 12,498.71 h10
  text "BF48" at 452.07,-396.7 h10
  text "B24" at -50.64,519.59 h10
  text "C25" at -29.76,498.71 h10
  text "D46" at 408.7,477.83 h10
  text "B48" at 450.46,519.59 h10
  text "A49" at 471.34,540.47 h10
  text "C47" at 429.58,498.71 h10
  text "G47" at 438.83,426.83 h10
  text "D48" at 450.46,477.83 h10
  text "BL51" at 526.34,-510.34 h10
  text "AH38" at 245.67,-20.88 h10
  text "AJ39" at 266.55,-41.76 h10
  text "AG39" at 266.55,0 h10
  text "AE39" at 266.55,41.76 h10
  text "AF38" at 245.67,20.88 h10
  text "AC39" at 266.55,83.52 h10
  text "AD38" at 245.67,62.64 h10
  text "AB38" at 245.67,104.39 h10
  text "AA39" at 266.55,125.28 h10
  text "Y38" at 241.67,146.15 h10
  text "W39" at 262.55,167.03 h10
  text "U39" at 262.55,208.79 h10
  text "V38" at 241.67,187.91 h10
  text "AH16" at -213.67,-20.88 h10
  text "AJ15" at -234.55,-41.76 h10
  text "AG15" at -234.55,0 h10
  text "AE15" at -234.55,41.76 h10
  text "AF16" at -213.67,20.88 h10
  text "AC15" at -234.55,83.52 h10
  text "AD16" at -213.67,62.64 h10
  text "AB16" at -213.67,104.39 h10
  text "AA15" at -234.55,125.28 h10
  text "Y16" at -217.67,146.15 h10
  text "W15" at -238.55,167.03 h10
  text "U15" at -238.55,208.79 h10
  text "V16" at -217.67,187.91 h10
  text "C39" at 262.55,498.71 h10
  text "B40" at 283.43,519.59 h10
  text "L9" at -365.44,334.07 h10
  text "J11" at -322.07,373.44 h10
  text "B10" at -342.94,519.59 h10
  text "AR9" at -361.44,-167.03 h10
  text "AN9" at -361.44,-125.28 h10
  text "AR7" at -403.19,-167.03 h10
  text "AL9" at -361.44,-83.52 h10
  text "AP6" at -424.07,-146.15 h10
  text "C7" at -409.58,498.71 h10
  text "AV48" at 452.07,-229.67 h10
  text "AV50" at 493.83,-229.67 h10
  text "V26" at -8.88,187.91 h10
  text "H48" at 448.07,396.7 h10
  text "G45" at 387.82,415.19 h10
  text "L45" at 385.44,334.07 h10
  text "J45" at 397.07,385.07 h10
  text "A5" at -451.34,540.47 h10
  text "E3" at -490.71,459.34 h10
  text "BE53" at 556.47,-375.82 h10
  text "AY52" at 535.59,-271.43 h10
  text "AV52" at 535.59,-229.67 h10
  text "D8" at -388.7,477.83 h10
  text "AY2" at -507.59,-271.43 h10
  text "AY48" at 452.07,-271.43 h10
  text "BA3" at -486.71,-292.31 h10
  text "AT44" at 368.56,-187.91 h10
  text "AU3" at -486.71,-208.79 h10
  text "A15" at -238.55,540.47 h10
  text "AV6" at -424.07,-229.67 h10
  text "AR43" at 347.68,-167.03 h10
  text "D20" at -134.15,477.83 h10
  text "AV46" at 410.31,-229.67 h10
  text "AU49" at 472.95,-208.79 h10
  text "AR45" at 389.44,-167.03 h10
  text "AP44" at 368.56,-146.15 h10
  text "AU47" at 431.19,-208.79 h10
  text "AT48" at 452.07,-187.91 h10
  text "AL43" at 347.68,-83.52 h10
  text "AN45" at 389.44,-125.28 h10
  text "J39" at 262.55,373.44 h10
  text "G41" at 304.31,415.19 h10
  text "E37" at 220.79,456.95 h10
  text "F38" at 241.67,436.07 h10
  text "E39" at 262.55,456.95 h10
  text "F40" at 283.43,436.07 h10
  text "BC3" at -486.71,-334.07 h10
  text "F46" at 408.7,436.07 h10
  text "H44" at 366.94,394.31 h10
  text "BC7" at -403.19,-334.07 h10
  text "BC9" at -361.44,-334.07 h10
  text "A17" at -196.79,540.47 h10
  text "H42" at 325.19,394.31 h10
  text "F42" at 325.19,436.07 h10
  text "B8" at -388.7,519.59 h10
  text "T52" at 531.59,229.67 h10
  text "AF52" at 535.59,20.88 h10
  text "T2" at -511.59,229.67 h10
  text "AF2" at -507.59,20.88 h10
  text "H12" at -301.19,394.31 h10
  text "J43" at 346.07,373.44 h10
  text "BE33" at 141.28,-373.44 h10
  text "BC47" at 431.19,-334.07 h10
  text "BG49" at 472.95,-417.58 h10
  text "AP8" at -382.31,-146.15 h10
  text "F8" at -388.7,436.07 h10
  text "AN11" at -315.68,-125.28 h10
  text "E53" at 552.47,459.34 h10
  text "D52" at 531.59,480.22 h10
  text "C51" at 522.34,510.34 h10
  text "E49" at 480.59,468.59 h10
  text "E51" at 510.71,459.34 h10
  text "B50" at 492.22,519.59 h10
  text "H22" at -92.39,394.31 h10
  text "H24" at -50.64,394.31 h10
  text "D12" at -301.19,477.83 h10
  text "G7" at -418.83,426.83 h10
  text "E5" at -460.59,468.59 h10
  text "E7" at -409.58,456.95 h10
  text "C3" at -502.34,510.34 h10
  text "BD6" at -424.07,-354.94 h10
  text "AP46" at 410.31,-146.15 h10
  text "BG3" at -486.71,-417.58 h10
  text "A19" at -155.03,540.47 h10
  text "B20" at -134.15,519.59 h10
  text "AP10" at -336.56,-146.15 h10
  text "B22" at -92.39,519.59 h10
  text "A21" at -113.28,540.47 h10
  text "A11" at -322.07,540.47 h10
  text "E13" at -280.31,456.95 h10
  text "E11" at -322.07,456.95 h10
  text "G11" at -322.07,415.19 h10
  text "BA53" at 556.47,-292.31 h10
  text "AY50" at 493.83,-271.43 h10
  text "BL35" at 183.03,-498.71 h10
  text "BC53" at 556.47,-334.07 h10
  text "BN11" at -318.07,-540.47 h10
  text "A37" at 220.79,540.47 h10
  text "G43" at 346.07,415.19 h10
  text "AY44" at 368.56,-271.43 h10
  text "H40" at 283.43,394.31 h10
  text "D14" at -259.43,477.83 h10
  text "H38" at 241.67,394.31 h10
  text "H10" at -342.94,394.31 h10
  text "BB46" at 410.31,-313.19 h10
  text "BE49" at 472.95,-375.82 h10
  text "BE13" at -276.31,-373.44 h10
  text "AU43" at 347.68,-208.79 h10
  text "AV44" at 368.56,-229.67 h10
Mechanical 74:
  circle w6: c-490.53,491.32 r51.28
  lines w6: -619.77,-480.33 -590.24,-480.33 ; -619.77,-375.33 -590.24,-375.33 ; -619.77,-270.33 -590.24,-270.33 ; -619.77,-170.33 -590.24,-170.33 ; -619.77,-65.33 -590.24,-65.33 ; -619.77,39.67 -590.24,39.67 ; -619.77,144.67 -590.24,144.67 ; -619.77,249.67 -590.24,249.67 ; -619.77,354.67 -590.24,354.67 ; -619.77,459.67 -590.24,459.67 ; -460,590.23 -460,619.76 ; -355,590.23 -355,619.76 ; -250,590.23 -250,619.76 ; -145,590.23 -145,619.76 ; -40,590.23 -40,619.76 ; 65,590.23 65,619.76 ; 170,590.23 170,619.76 ; 270,590.23 270,619.76 ; 375,590.23 375,619.76 ; 480,590.23 480,619.76 ; -570.87,-570.87 -570.87,520.87 -520.87,570.87 570.87,570.87 570.87,-570.87 -570.87,-570.87 ; -562.99,-543.31 ccw(c-543.31,-543.31) -543.31,-562.99 543.31,-562.99 ccw(c543.31,-543.31) 562.99,-543.31 562.99,543.31 ccw(c543.31,543.31) 543.31,562.99 -512.99,562.99 -562.99,512.99 -562.99,-543.31
  text "A" at -614.25,527.96 h25
  text "BN" at -503.58,-510.55 h20
  text "1" at -553,587.5 h25
  text "53" at 577.05,609.76 h20
  text "U15" at 30.17,16.64 h20
Mechanical 105:
  text "PADS C013S (X1313)" at -258,-755.33 h30.98
  text "ALL DIMS IN MILS" at -225,-815.5 h30.98
  text "IMX8_BGA_1313" at -160.28,763.09 h30.98
3D body: height 150, standoff 0, extent -570.87,-570.87 570.87,570.87